# Altium integrated library Lattice CPLD ispMACH 5000B.IntLib: 54 symbols (part 2 of 6)
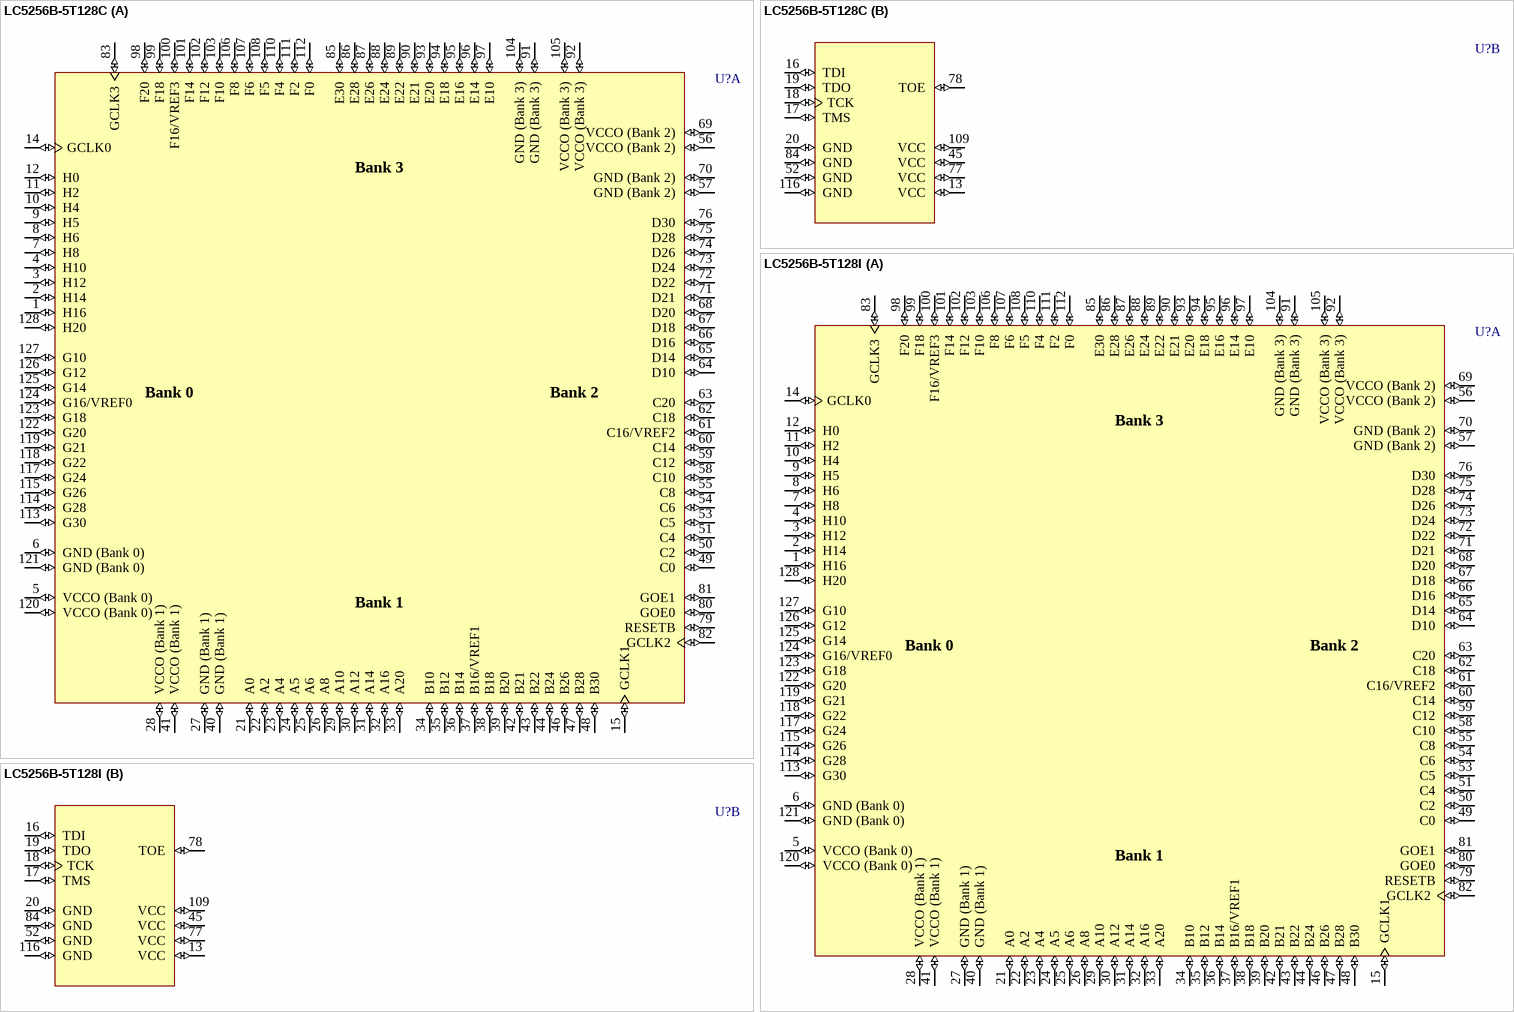
[diagram p45: symbols LC5256B-5T128C to LC5256B-5T128I]

## LC5256B-5T128I
designator U?
ispMACH 5256B SuperWIDE, High Density PLD, 2.5 V, 92 User I/Os, 128-Pin TQFP, 5.0 ns, Industrial Grade; Published: 17-Dec-2003; LatestRevisionDate: 13-Apr-2006; LatestRevisionNote: IPC-7351 Footprint Added.; DatasheetVersion: 5kb_11.1 (Sep-2003); PackageVersion: Aug-2005; PackageReference: TQFP128; Publisher: Altium Limited; PackageDescription: 128-Pin Thin Quad Flat Pack 0.4 mm Pitch; ComponentLink1Description: Manufacturer Link; ComponentLink1URL: http://www.latticesemi.com/; ComponentLink2Description: Datasheet; ComponentLink2URL: http://www.latticesemi.com/account/_download.cfm?AMID=4957; ComponentLink3Description: Lattice Login; ComponentLink3URL: http://www.latticesemi.com/account/login.cfm
footprint TQFP128_N (Thin QFP, 128-Leads, Body 14x14mm, Pitch 0.4mm, IPC Medium Density)
footprint TQFP128_L (Thin QFP, 128-Leads, Body 14x14mm, Pitch 0.4mm, IPC High Density)
footprint TQFP128_M (Thin QFP, 128-Leads, Body 14x14mm, Pitch 0.4mm, IPC Low Density)
3D model 5128B-TQFP128 (128-Pin Thin Quad Flat Pack 0.4 mm Pitch)
part A pins: 1 H16 (io), 2 H14 (io), 3 H12 (io), 4 H10 (io), 5 VCCO (Bank 0) (io), 6 GND (Bank 0) (io), 7 H8 (io), 8 H6 (io), 9 H5 (io), 10 H4 (io), 11 H2 (io), 12 H0 (io), 14 GCLK0 (io), 15 GCLK1 (io), 21 A0 (io), 22 A2 (io), 23 A4 (io), 24 A5 (io), 25 A6 (io), 26 A8 (io), 27 GND (Bank 1) (io), 28 VCCO (Bank 1) (io), 29 A10 (io), 30 A12 (io), 31 A14 (io), 32 A16 (io), 33 A20 (io), 34 B10 (io), 35 B12 (io), 36 B14 (io), 37 B16/VREF1 (io), 38 B18 (io), 39 B20 (io), 40 GND (Bank 1) (io), 41 VCCO (Bank 1) (io), 42 B21 (io), 43 B22 (io), 44 B24 (io), 46 B26 (io), 47 B28 (io), 48 B30 (io), 49 C0 (io), 50 C2 (io), 51 C4 (io), 53 C5 (io), 54 C6 (io), 55 C8 (io), 56 VCCO (Bank 2) (io), 57 GND (Bank 2) (io), 58 C10 (io), 59 C12 (io), 60 C14 (io), 61 C16/VREF2 (io), 62 C18 (io), 63 C20 (io), 64 D10 (io), 65 D14 (io), 66 D16 (io), 67 D18 (io), 68 D20 (io), 69 VCCO (Bank 2) (io), 70 GND (Bank 2) (io), 71 D21 (io), 72 D22 (io), 73 D24 (io), 74 D26 (io), 75 D28 (io), 76 D30 (io), 79 RESETB (io), 80 GOE0 (io), 81 GOE1 (io), 82 GCLK2 (io), 83 GCLK3 (io), 85 E30 (io), 86 E28 (io), 87 E26 (io), 88 E24 (io), 89 E22 (io), 90 E21 (io), 91 GND (Bank 3) (io), 92 VCCO (Bank 3) (io), 93 E20 (io), 94 E18 (io), 95 E16 (io), 96 E14 (io), 97 E10 (io), 98 F20 (io), 99 F18 (io), 100 F16/VREF3 (io), 101 F14 (io), 102 F12 (io), 103 F10 (io), 104 GND (Bank 3) (io), 105 VCCO (Bank 3) (io), 106 F8 (io), 107 F6 (io), 108 F5 (io), 110 F4 (io), 111 F2 (io), 112 F0 (io), 113 G30 (io), 114 G28 (io), 115 G26 (io), 117 G24 (io), 118 G22 (io), 119 G21 (io), 120 VCCO (Bank 0) (io), 121 GND (Bank 0) (io), 122 G20 (io), 123 G18 (io), 124 G16/VREF0 (io), 125 G14 (io), 126 G12 (io), 127 G10 (io), 128 H20 (io)
part B pins: 13 VCC (io), 16 TDI (io), 17 TMS (io), 18 TCK (io), 19 TDO (io), 20 GND (io), 45 VCC (io), 52 GND (io), 77 VCC (io), 78 TOE (io), 84 GND (io), 109 VCC (io), 116 GND (io)
part A text: Bank 3; Bank 0; Bank 2; Bank 1

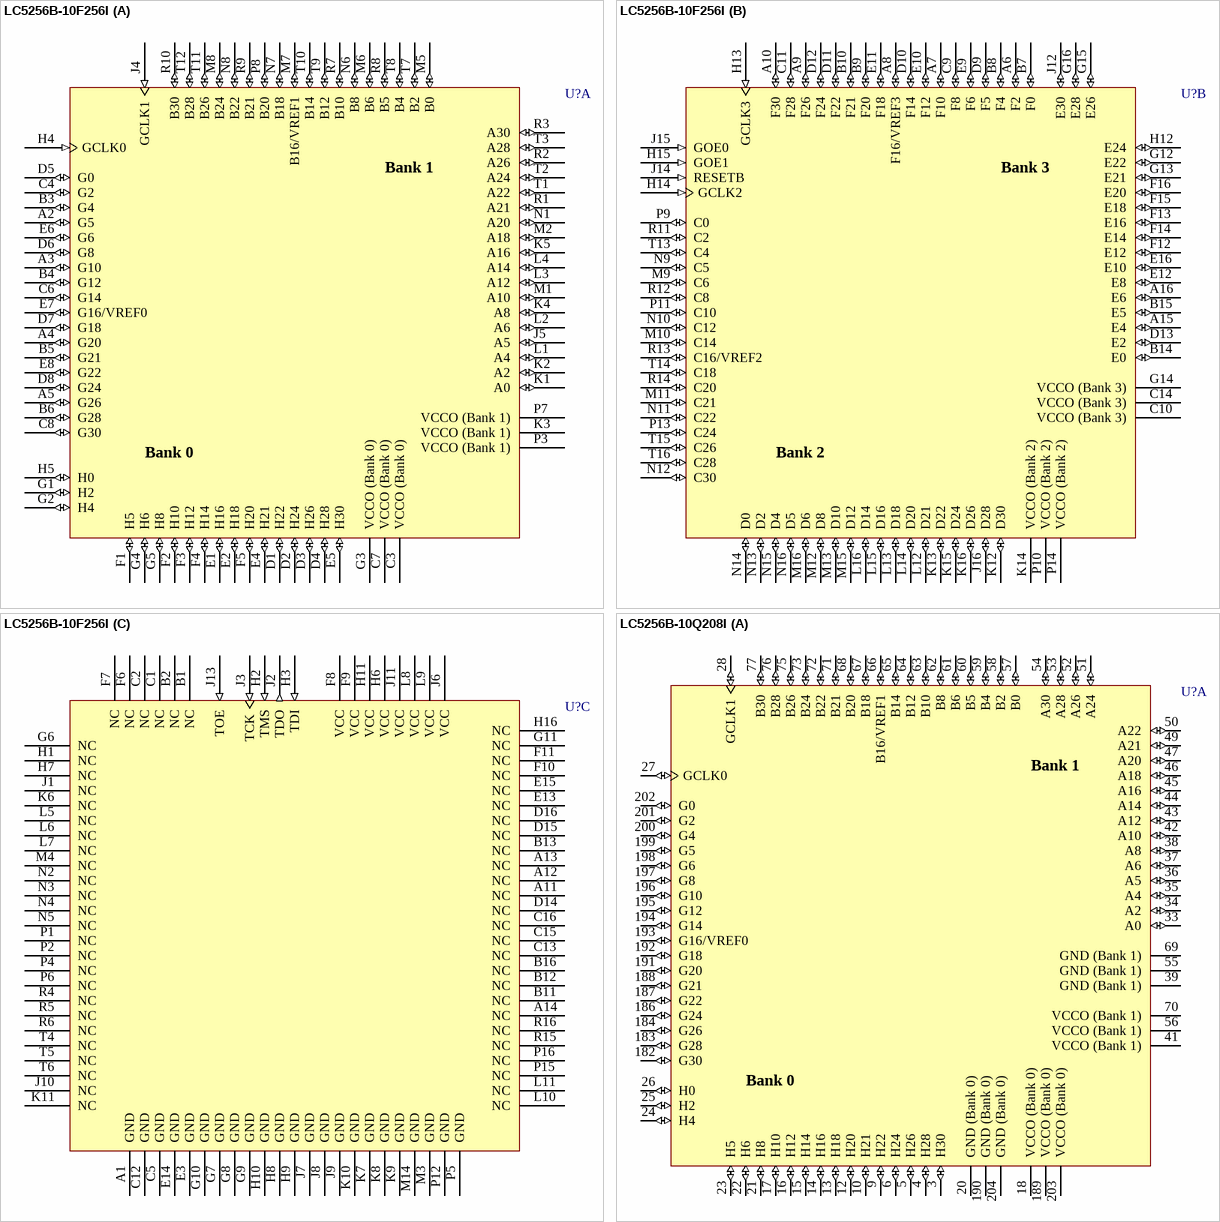
[diagram p8: symbols LC5256B-10F256I to LC5256B-10Q208I]

## LC5256B-10F256I
designator U?
ispMACH 5256B SuperWIDE, High Density PLD, 2.5 V, 144 User I/Os, 256-Ball fpBGA, 10 ns, Industrial Grade; Published: 17-Dec-2003; LatestRevisionDate: 13-Apr-2006; LatestRevisionNote: IPC-7351 Footprint Added.; DatasheetVersion: 5kb_11.1 (Sep-2003); PackageVersion: pkg_32, Aug-2005; PackageReference: fpBGA256; Publisher: Altium Limited; PackageDescription: 256-Ball Fine Pitch Ball Grid Array (fpBGA256); Code_IPC: BGA100P16X16-256; ComponentLink1Description: Manufacturer Link; ComponentLink1URL: http://www.latticesemi.com/; ComponentLink2Description: Datasheet; ComponentLink2URL: http://www.latticesemi.com/account/_download.cfm?AMID=4957; ComponentLink3Description: Lattice Login; ComponentLink3URL: http://www.latticesemi.com/account/login.cfm
footprint fpBGA256 (BGA, 256-Leads, Body 17x17mm, Pitch 1mm)
3D model 5256B-fpBGA256 (256-Ball Fine Pitch Ball Grid Array (fpBGA256))
part A pins: A2 G5 (io), A3 G10 (io), A4 G20 (io), A5 G26 (io), B3 G4 (io), B4 G12 (io), B5 G21 (io), B6 G28 (io), C3 VCCO (Bank 0) (power), C4 G2 (io), C6 G14 (io), C7 VCCO (Bank 0) (power), C8 G30 (io), D1 H22 (io), D2 H24 (io), D3 H26 (io), D4 H28 (io), D5 G0 (io), D6 G8 (io), D7 G18 (io), D8 G24 (io), E1 H16 (io), E2 H18 (io), E4 H21 (io), E5 H30 (io), E6 G6 (io), E7 G16/VREF0 (io), E8 G22 (io), F1 H5 (io), F2 H10 (io), F3 H12 (io), F4 H14 (io), F5 H20 (io), G1 H2 (io), G2 H4 (io), G3 VCCO (Bank 0) (power), G4 H6 (io), G5 H8 (io), H4 GCLK0 (in), H5 H0 (io), J4 GCLK1 (in), J5 A5 (io), K1 A0 (io), K2 A2 (io), K3 VCCO (Bank 1) (power), K4 A8 (io), K5 A16 (io), L1 A4 (io), L2 A6 (io), L3 A12 (io), L4 A14 (io), M1 A10 (io), M2 A18 (io), M5 B0 (io), M6 B6 (io), M7 B16/VREF1 (io), M8 B24 (io), N1 A20 (io), N6 B8 (io), N7 B18 (io), N8 B22 (io), P3 VCCO (Bank 1) (power), P7 VCCO (Bank 1) (power), P8 B20 (io), R1 A21 (io), R2 A26 (io), R3 A30 (io), R7 B10 (io), R8 B5 (io), R9 B21 (io), R10 B30 (io), T1 A22 (io), T2 A24 (io), T3 A28 (io), T7 B2 (io), T8 B4 (io), T9 B12 (io), T10 B14 (io), T11 B26 (io), T12 B28 (io)
part B pins: A6 F2 (io), A7 F10 (io), A8 F16/VREF3 (io), A9 F26 (io), A10 F30 (io), A15 E4 (io), A16 E6 (io), B7 F0 (io), B8 F4 (io), B9 F20 (io), B10 F21 (io), B14 E0 (io), B15 E5 (io), C9 F8 (io), C10 VCCO (Bank 3) (power), C11 F28 (io), C14 VCCO (Bank 3) (power), D9 F5 (io), D10 F14 (io), D11 F22 (io), D12 F24 (io), D13 E2 (io), E9 F6 (io), E10 F12 (io), E11 F18 (io), E12 E8 (io), E16 E10 (io), F12 E12 (io), F13 E16 (io), F14 E14 (io), F15 E18 (io), F16 E20 (io), G12 E22 (io), G13 E21 (io), G14 VCCO (Bank 3) (power), G15 E26 (io), G16 E28 (io), H12 E24 (io), H13 GCLK3 (in), H14 GCLK2 (in), H15 GOE1 (in), J12 E30 (io), J14 RESETB (in), J15 GOE0 (in), J16 D28 (io), K12 D30 (io), K13 D22 (io), K14 VCCO (Bank 2) (power), K15 D24 (io), K16 D26 (io), L12 D21 (io), L13 D18 (io), L14 D20 (io), L15 D16 (io), L16 D14 (io), M9 C6 (io), M10 C14 (io), M11 C21 (io), M12 D8 (io), M13 D10 (io), M15 D12 (io), M16 D6 (io), N9 C5 (io), N10 C12 (io), N11 C22 (io), N12 C30 (io), N13 D2 (io), N14 D0 (io), N15 D4 (io), N16 D5 (io), P9 C0 (io), P10 VCCO (Bank 2) (power), P11 C10 (io), P13 C24 (io), P14 VCCO (Bank 2) (power), R11 C2 (io), R12 C8 (io), R13 C16/VREF2 (io), R14 C20 (io), T13 C4 (io), T14 C18 (io), T15 C26 (io), T16 C28 (io)
part C pins: A1 GND (power), A11 NC, A12 NC, A13 NC, A14 NC, B1 NC, B2 NC, B11 NC, B12 NC, B13 NC, B16 NC, C1 NC, C2 NC, C5 GND (power), C12 GND (power), C13 NC, C15 NC, C16 NC, D14 NC, D15 NC, D16 NC, E3 GND (power), E13 NC, E14 GND (power), E15 NC, F6 NC, F7 NC, F8 VCC (power), F9 VCC (power), F10 NC, F11 NC, G6 NC, G7 GND (power), G8 GND (power), G9 GND (power), G10 GND (power), G11 NC, H1 NC, H2 TMS (in), H3 TDI (in), H6 VCC (power), H7 NC, H8 GND (power), H9 GND (power), H10 GND (power), H11 VCC (power), H16 NC, J1 NC, J2 TDO (out), J3 TCK (in), J6 VCC (power), J7 GND (power), J8 GND (power), J9 GND (power), J10 NC, J11 VCC (power), J13 TOE (in), K6 NC, K7 GND (power), K8 GND (power), K9 GND (power), K10 GND (power), K11 NC, L5 NC, L6 NC, L7 NC, L8 VCC (power), L9 VCC (power), L10 NC, L11 NC, M3 GND (power), M4 NC, M14 GND (power), N2 NC, N3 NC, N4 NC, N5 NC, P1 NC, P2 NC, P4 NC, P5 GND (power), P6 NC, P12 GND (power), P15 NC, P16 NC, R4 NC, R5 NC, R6 NC, R15 NC, R16 NC, T4 NC, T5 NC, T6 NC
part A text: Bank 1; Bank 0
part B text: Bank 3; Bank 2

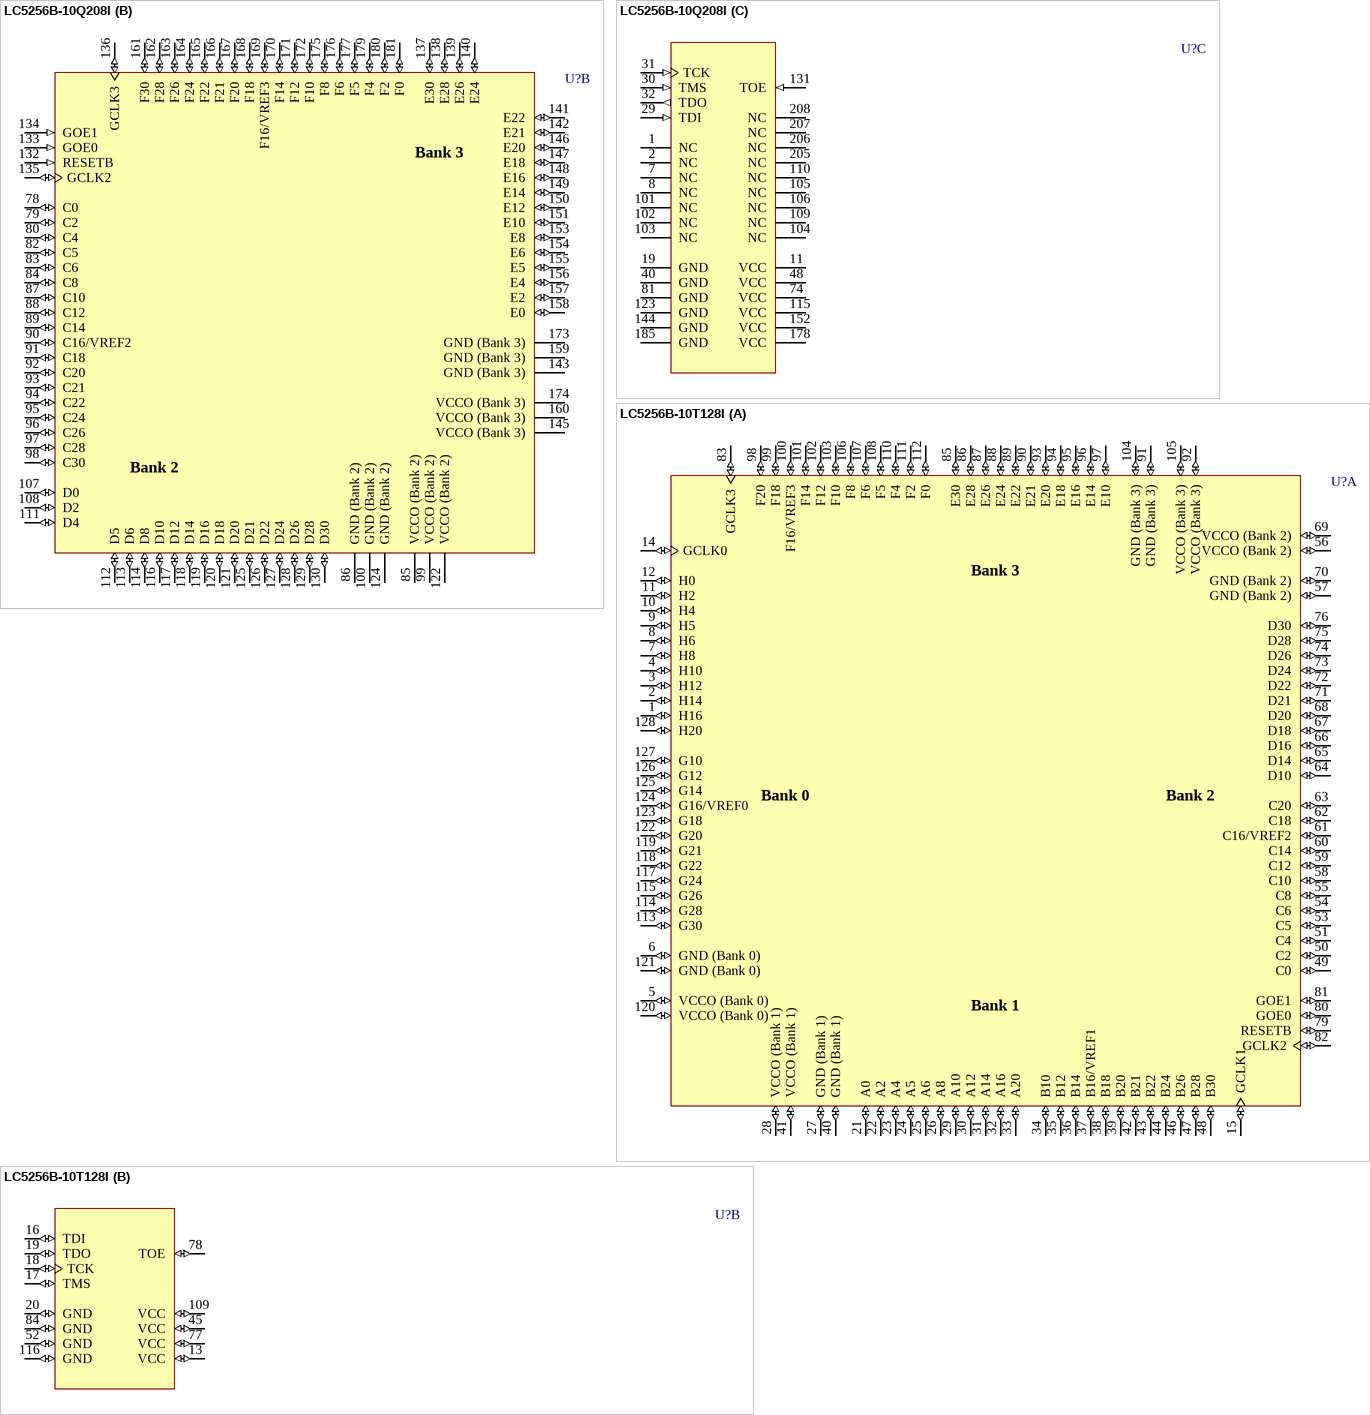
[diagram p9: symbols LC5256B-10Q208I to LC5256B-10T128I]

## LC5256B-10Q208I
designator U?
ispMACH 5256B SuperWIDE, High Density PLD,, 2.5 V, 144 User I/Os, 208-Pin PQFP, 10 ns, Industrial Grade; Published: 17-Dec-2003; LatestRevisionDate: 13-Apr-2006; LatestRevisionNote: IPC-7351 Footprint Added.; DatasheetVersion: 5kb_11.1 (Sep-2003); PackageVersion: pkg_32, Aug-2005; PackageReference: PQFP208; Publisher: Altium Limited; PackageDescription: 208-Pin Plastic Quad Flat Pack (PQFP208); Code_JEDEC: MO-143-FAI; ComponentLink1Description: Manufacturer Link; ComponentLink1URL: http://www.latticesemi.com/; ComponentLink2Description: Datasheet; ComponentLink2URL: http://www.latticesemi.com/account/_download.cfm?AMID=4957; ComponentLink3Description: Lattice Login; ComponentLink3URL: http://www.latticesemi.com/account/login.cfm
footprint PQFP208_N (Shrink QFP, 208-Leads, Body 28x28mm, Pitch 0.5mm, IPC Medium Density)
footprint PQFP208_L (Shrink QFP, 208-Leads, Body 28x28mm, Pitch 0.5mm, IPC High Density)
footprint PQFP208_M (Shrink QFP, 208-Leads, Body 28x28mm, Pitch 0.5mm, IPC Low Density)
3D model 5256B-PQFP208 (208-Pin Plastic Quad Flat Pack (PQFP208))
part A pins: 3 H30 (io), 4 H28 (io), 5 H26 (io), 6 H24 (io), 9 H22 (io), 10 H21 (io), 12 H20 (io), 13 H18 (io), 14 H16 (io), 15 H14 (io), 16 H12 (io), 17 H10 (io), 18 VCCO (Bank 0) (power), 20 GND (Bank 0) (power), 21 H8 (io), 22 H6 (io), 23 H5 (io), 24 H4 (io), 25 H2 (io), 26 H0 (io), 27 GCLK0 (io), 28 GCLK1 (io), 33 A0 (io), 34 A2 (io), 35 A4 (io), 36 A5 (io), 37 A6 (io), 38 A8 (io), 39 GND (Bank 1) (power), 41 VCCO (Bank 1) (power), 42 A10 (io), 43 A12 (io), 44 A14 (io), 45 A16 (io), 46 A18 (io), 47 A20 (io), 49 A21 (io), 50 A22 (io), 51 A24 (io), 52 A26 (io), 53 A28 (io), 54 A30 (io), 55 GND (Bank 1) (power), 56 VCCO (Bank 1) (power), 57 B0 (io), 58 B2 (io), 59 B4 (io), 60 B5 (io), 61 B6 (io), 62 B8 (io), 63 B10 (io), 64 B12 (io), 65 B14 (io), 66 B16/VREF1 (io), 67 B18 (io), 68 B20 (io), 69 GND (Bank 1) (power), 70 VCCO (Bank 1) (power), 71 B21 (io), 72 B22 (io), 73 B24 (io), 75 B26 (io), 76 B28 (io), 77 B30 (io), 182 G30 (io), 183 G28 (io), 184 G26 (io), 186 G24 (io), 187 G22 (io), 188 G21 (io), 189 VCCO (Bank 0) (power), 190 GND (Bank 0) (power), 191 G20 (io), 192 G18 (io), 193 G16/VREF0 (io), 194 G14 (io), 195 G12 (io), 196 G10 (io), 197 G8 (io), 198 G6 (io), 199 G5 (io), 200 G4 (io), 201 G2 (io), 202 G0 (io), 203 VCCO (Bank 0) (power), 204 GND (Bank 0) (power)
part B pins: 78 C0 (io), 79 C2 (io), 80 C4 (io), 82 C5 (io), 83 C6 (io), 84 C8 (io), 85 VCCO (Bank 2) (power), 86 GND (Bank 2) (power), 87 C10 (io), 88 C12 (io), 89 C14 (io), 90 C16/VREF2 (io), 91 C18 (io), 92 C20 (io), 93 C21 (io), 94 C22 (io), 95 C24 (io), 96 C26 (io), 97 C28 (io), 98 C30 (io), 99 VCCO (Bank 2) (power), 100 GND (Bank 2) (power), 107 D0 (io), 108 D2 (io), 111 D4 (io), 112 D5 (io), 113 D6 (io), 114 D8 (io), 116 D10 (io), 117 D12 (io), 118 D14 (io), 119 D16 (io), 120 D18 (io), 121 D20 (io), 122 VCCO (Bank 2) (power), 124 GND (Bank 2) (power), 125 D21 (io), 126 D22 (io), 127 D24 (io), 128 D26 (io), 129 D28 (io), 130 D30 (io), 132 RESETB (in), 133 GOE0 (in), 134 GOE1 (in), 135 GCLK2 (io), 136 GCLK3 (io), 137 E30 (io), 138 E28 (io), 139 E26 (io), 140 E24 (io), 141 E22 (io), 142 E21 (io), 143 GND (Bank 3) (power), 145 VCCO (Bank 3) (power), 146 E20 (io), 147 E18 (io), 148 E16 (io), 149 E14 (io), 150 E12 (io), 151 E10 (io), 153 E8 (io), 154 E6 (io), 155 E5 (io), 156 E4 (io), 157 E2 (io), 158 E0 (io), 159 GND (Bank 3) (power), 160 VCCO (Bank 3) (power), 161 F30 (io), 162 F28 (io), 163 F26 (io), 164 F24 (io), 165 F22 (io), 166 F21 (io), 167 F20 (io), 168 F18 (io), 169 F16/VREF3 (io), 170 F14 (io), 171 F12 (io), 172 F10 (io), 173 GND (Bank 3) (power), 174 VCCO (Bank 3) (power), 175 F8 (io), 176 F6 (io), 177 F5 (io), 179 F4 (io), 180 F2 (io), 181 F0 (io)
part C pins: 1 NC, 2 NC, 7 NC, 8 NC, 11 VCC (power), 19 GND (power), 29 TDI (in), 30 TMS (in), 31 TCK (in), 32 TDO (out), 40 GND (power), 48 VCC (power), 74 VCC (power), 81 GND (power), 101 NC, 102 NC, 103 NC, 104 NC, 105 NC, 106 NC, 109 NC, 110 NC, 115 VCC (power), 123 GND (power), 131 TOE (in), 144 GND (power), 152 VCC (power), 178 VCC (power), 185 GND (power), 205 NC, 206 NC, 207 NC, 208 NC
part A text: Bank 1; Bank 0
part B text: Bank 3; Bank 2

## LC5256B-10T128I
designator U?
ispMACH 5256B SuperWIDE, High Density PLD, 2.5 V, 92 User I/Os, 128-Pin TQFP, 10 ns, Industrial Grade; Published: 17-Dec-2003; LatestRevisionDate: 13-Apr-2006; LatestRevisionNote: IPC-7351 Footprint Added.; DatasheetVersion: 5kb_11.1 (Sep-2003); PackageVersion: Aug-2005; PackageReference: TQFP128; Publisher: Altium Limited; PackageDescription: 128-Pin Thin Quad Flat Pack 0.4 mm Pitch; ComponentLink1Description: Manufacturer Link; ComponentLink1URL: http://www.latticesemi.com/; ComponentLink2Description: Datasheet; ComponentLink2URL: http://www.latticesemi.com/account/_download.cfm?AMID=4957; ComponentLink3Description: Lattice Login; ComponentLink3URL: http://www.latticesemi.com/account/login.cfm
footprint TQFP128_N (Thin QFP, 128-Leads, Body 14x14mm, Pitch 0.4mm, IPC Medium Density)
footprint TQFP128_L (Thin QFP, 128-Leads, Body 14x14mm, Pitch 0.4mm, IPC High Density)
footprint TQFP128_M (Thin QFP, 128-Leads, Body 14x14mm, Pitch 0.4mm, IPC Low Density)
3D model 5128B-TQFP128 (128-Pin Thin Quad Flat Pack 0.4 mm Pitch)
part A pins: 1 H16 (io), 2 H14 (io), 3 H12 (io), 4 H10 (io), 5 VCCO (Bank 0) (io), 6 GND (Bank 0) (io), 7 H8 (io), 8 H6 (io), 9 H5 (io), 10 H4 (io), 11 H2 (io), 12 H0 (io), 14 GCLK0 (io), 15 GCLK1 (io), 21 A0 (io), 22 A2 (io), 23 A4 (io), 24 A5 (io), 25 A6 (io), 26 A8 (io), 27 GND (Bank 1) (io), 28 VCCO (Bank 1) (io), 29 A10 (io), 30 A12 (io), 31 A14 (io), 32 A16 (io), 33 A20 (io), 34 B10 (io), 35 B12 (io), 36 B14 (io), 37 B16/VREF1 (io), 38 B18 (io), 39 B20 (io), 40 GND (Bank 1) (io), 41 VCCO (Bank 1) (io), 42 B21 (io), 43 B22 (io), 44 B24 (io), 46 B26 (io), 47 B28 (io), 48 B30 (io), 49 C0 (io), 50 C2 (io), 51 C4 (io), 53 C5 (io), 54 C6 (io), 55 C8 (io), 56 VCCO (Bank 2) (io), 57 GND (Bank 2) (io), 58 C10 (io), 59 C12 (io), 60 C14 (io), 61 C16/VREF2 (io), 62 C18 (io), 63 C20 (io), 64 D10 (io), 65 D14 (io), 66 D16 (io), 67 D18 (io), 68 D20 (io), 69 VCCO (Bank 2) (io), 70 GND (Bank 2) (io), 71 D21 (io), 72 D22 (io), 73 D24 (io), 74 D26 (io), 75 D28 (io), 76 D30 (io), 79 RESETB (io), 80 GOE0 (io), 81 GOE1 (io), 82 GCLK2 (io), 83 GCLK3 (io), 85 E30 (io), 86 E28 (io), 87 E26 (io), 88 E24 (io), 89 E22 (io), 90 E21 (io), 91 GND (Bank 3) (io), 92 VCCO (Bank 3) (io), 93 E20 (io), 94 E18 (io), 95 E16 (io), 96 E14 (io), 97 E10 (io), 98 F20 (io), 99 F18 (io), 100 F16/VREF3 (io), 101 F14 (io), 102 F12 (io), 103 F10 (io), 104 GND (Bank 3) (io), 105 VCCO (Bank 3) (io), 106 F8 (io), 107 F6 (io), 108 F5 (io), 110 F4 (io), 111 F2 (io), 112 F0 (io), 113 G30 (io), 114 G28 (io), 115 G26 (io), 117 G24 (io), 118 G22 (io), 119 G21 (io), 120 VCCO (Bank 0) (io), 121 GND (Bank 0) (io), 122 G20 (io), 123 G18 (io), 124 G16/VREF0 (io), 125 G14 (io), 126 G12 (io), 127 G10 (io), 128 H20 (io)
part B pins: 13 VCC (io), 16 TDI (io), 17 TMS (io), 18 TCK (io), 19 TDO (io), 20 GND (io), 45 VCC (io), 52 GND (io), 77 VCC (io), 78 TOE (io), 84 GND (io), 109 VCC (io), 116 GND (io)
part A text: Bank 3; Bank 0; Bank 2; Bank 1

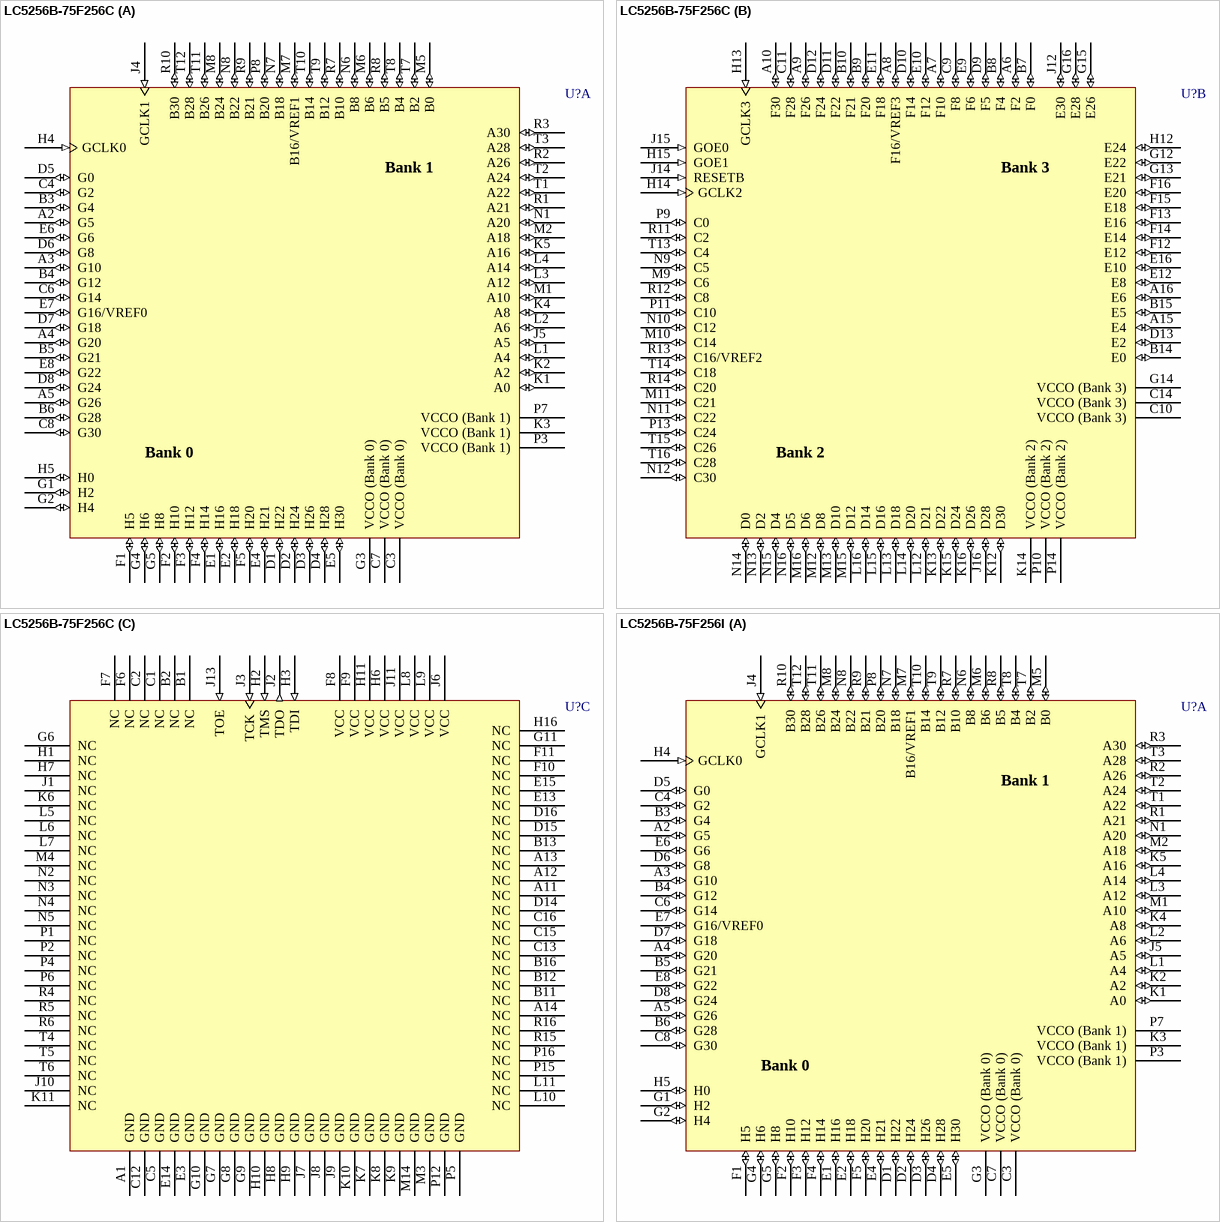
[diagram p10: symbols LC5256B-75F256C to LC5256B-75F256I]

## LC5256B-75F256C
designator U?
ispMACH 5256B SuperWIDE, High Density PLD, 2.5 V, 144 User I/Os, 256-Ball fpBGA, 7.5 ns, Commercial Grade; Published: 17-Dec-2003; LatestRevisionDate: 13-Apr-2006; LatestRevisionNote: IPC-7351 Footprint Added.; DatasheetVersion: 5kb_11.1 (Sep-2003); PackageVersion: pkg_32, Aug-2005; PackageReference: fpBGA256; Publisher: Altium Limited; PackageDescription: 256-Ball Fine Pitch Ball Grid Array (fpBGA256); Code_IPC: BGA100P16X16-256; ComponentLink1Description: Manufacturer Link; ComponentLink1URL: http://www.latticesemi.com/; ComponentLink2Description: Datasheet; ComponentLink2URL: http://www.latticesemi.com/account/_download.cfm?AMID=4957; ComponentLink3Description: Lattice Login; ComponentLink3URL: http://www.latticesemi.com/account/login.cfm
footprint fpBGA256 (BGA, 256-Leads, Body 17x17mm, Pitch 1mm)
3D model 5256B-fpBGA256 (256-Ball Fine Pitch Ball Grid Array (fpBGA256))
part A pins: A2 G5 (io), A3 G10 (io), A4 G20 (io), A5 G26 (io), B3 G4 (io), B4 G12 (io), B5 G21 (io), B6 G28 (io), C3 VCCO (Bank 0) (power), C4 G2 (io), C6 G14 (io), C7 VCCO (Bank 0) (power), C8 G30 (io), D1 H22 (io), D2 H24 (io), D3 H26 (io), D4 H28 (io), D5 G0 (io), D6 G8 (io), D7 G18 (io), D8 G24 (io), E1 H16 (io), E2 H18 (io), E4 H21 (io), E5 H30 (io), E6 G6 (io), E7 G16/VREF0 (io), E8 G22 (io), F1 H5 (io), F2 H10 (io), F3 H12 (io), F4 H14 (io), F5 H20 (io), G1 H2 (io), G2 H4 (io), G3 VCCO (Bank 0) (power), G4 H6 (io), G5 H8 (io), H4 GCLK0 (in), H5 H0 (io), J4 GCLK1 (in), J5 A5 (io), K1 A0 (io), K2 A2 (io), K3 VCCO (Bank 1) (power), K4 A8 (io), K5 A16 (io), L1 A4 (io), L2 A6 (io), L3 A12 (io), L4 A14 (io), M1 A10 (io), M2 A18 (io), M5 B0 (io), M6 B6 (io), M7 B16/VREF1 (io), M8 B24 (io), N1 A20 (io), N6 B8 (io), N7 B18 (io), N8 B22 (io), P3 VCCO (Bank 1) (power), P7 VCCO (Bank 1) (power), P8 B20 (io), R1 A21 (io), R2 A26 (io), R3 A30 (io), R7 B10 (io), R8 B5 (io), R9 B21 (io), R10 B30 (io), T1 A22 (io), T2 A24 (io), T3 A28 (io), T7 B2 (io), T8 B4 (io), T9 B12 (io), T10 B14 (io), T11 B26 (io), T12 B28 (io)
part B pins: A6 F2 (io), A7 F10 (io), A8 F16/VREF3 (io), A9 F26 (io), A10 F30 (io), A15 E4 (io), A16 E6 (io), B7 F0 (io), B8 F4 (io), B9 F20 (io), B10 F21 (io), B14 E0 (io), B15 E5 (io), C9 F8 (io), C10 VCCO (Bank 3) (power), C11 F28 (io), C14 VCCO (Bank 3) (power), D9 F5 (io), D10 F14 (io), D11 F22 (io), D12 F24 (io), D13 E2 (io), E9 F6 (io), E10 F12 (io), E11 F18 (io), E12 E8 (io), E16 E10 (io), F12 E12 (io), F13 E16 (io), F14 E14 (io), F15 E18 (io), F16 E20 (io), G12 E22 (io), G13 E21 (io), G14 VCCO (Bank 3) (power), G15 E26 (io), G16 E28 (io), H12 E24 (io), H13 GCLK3 (in), H14 GCLK2 (in), H15 GOE1 (in), J12 E30 (io), J14 RESETB (in), J15 GOE0 (in), J16 D28 (io), K12 D30 (io), K13 D22 (io), K14 VCCO (Bank 2) (power), K15 D24 (io), K16 D26 (io), L12 D21 (io), L13 D18 (io), L14 D20 (io), L15 D16 (io), L16 D14 (io), M9 C6 (io), M10 C14 (io), M11 C21 (io), M12 D8 (io), M13 D10 (io), M15 D12 (io), M16 D6 (io), N9 C5 (io), N10 C12 (io), N11 C22 (io), N12 C30 (io), N13 D2 (io), N14 D0 (io), N15 D4 (io), N16 D5 (io), P9 C0 (io), P10 VCCO (Bank 2) (power), P11 C10 (io), P13 C24 (io), P14 VCCO (Bank 2) (power), R11 C2 (io), R12 C8 (io), R13 C16/VREF2 (io), R14 C20 (io), T13 C4 (io), T14 C18 (io), T15 C26 (io), T16 C28 (io)
part C pins: A1 GND (power), A11 NC, A12 NC, A13 NC, A14 NC, B1 NC, B2 NC, B11 NC, B12 NC, B13 NC, B16 NC, C1 NC, C2 NC, C5 GND (power), C12 GND (power), C13 NC, C15 NC, C16 NC, D14 NC, D15 NC, D16 NC, E3 GND (power), E13 NC, E14 GND (power), E15 NC, F6 NC, F7 NC, F8 VCC (power), F9 VCC (power), F10 NC, F11 NC, G6 NC, G7 GND (power), G8 GND (power), G9 GND (power), G10 GND (power), G11 NC, H1 NC, H2 TMS (in), H3 TDI (in), H6 VCC (power), H7 NC, H8 GND (power), H9 GND (power), H10 GND (power), H11 VCC (power), H16 NC, J1 NC, J2 TDO (out), J3 TCK (in), J6 VCC (power), J7 GND (power), J8 GND (power), J9 GND (power), J10 NC, J11 VCC (power), J13 TOE (in), K6 NC, K7 GND (power), K8 GND (power), K9 GND (power), K10 GND (power), K11 NC, L5 NC, L6 NC, L7 NC, L8 VCC (power), L9 VCC (power), L10 NC, L11 NC, M3 GND (power), M4 NC, M14 GND (power), N2 NC, N3 NC, N4 NC, N5 NC, P1 NC, P2 NC, P4 NC, P5 GND (power), P6 NC, P12 GND (power), P15 NC, P16 NC, R4 NC, R5 NC, R6 NC, R15 NC, R16 NC, T4 NC, T5 NC, T6 NC
part A text: Bank 1; Bank 0
part B text: Bank 3; Bank 2

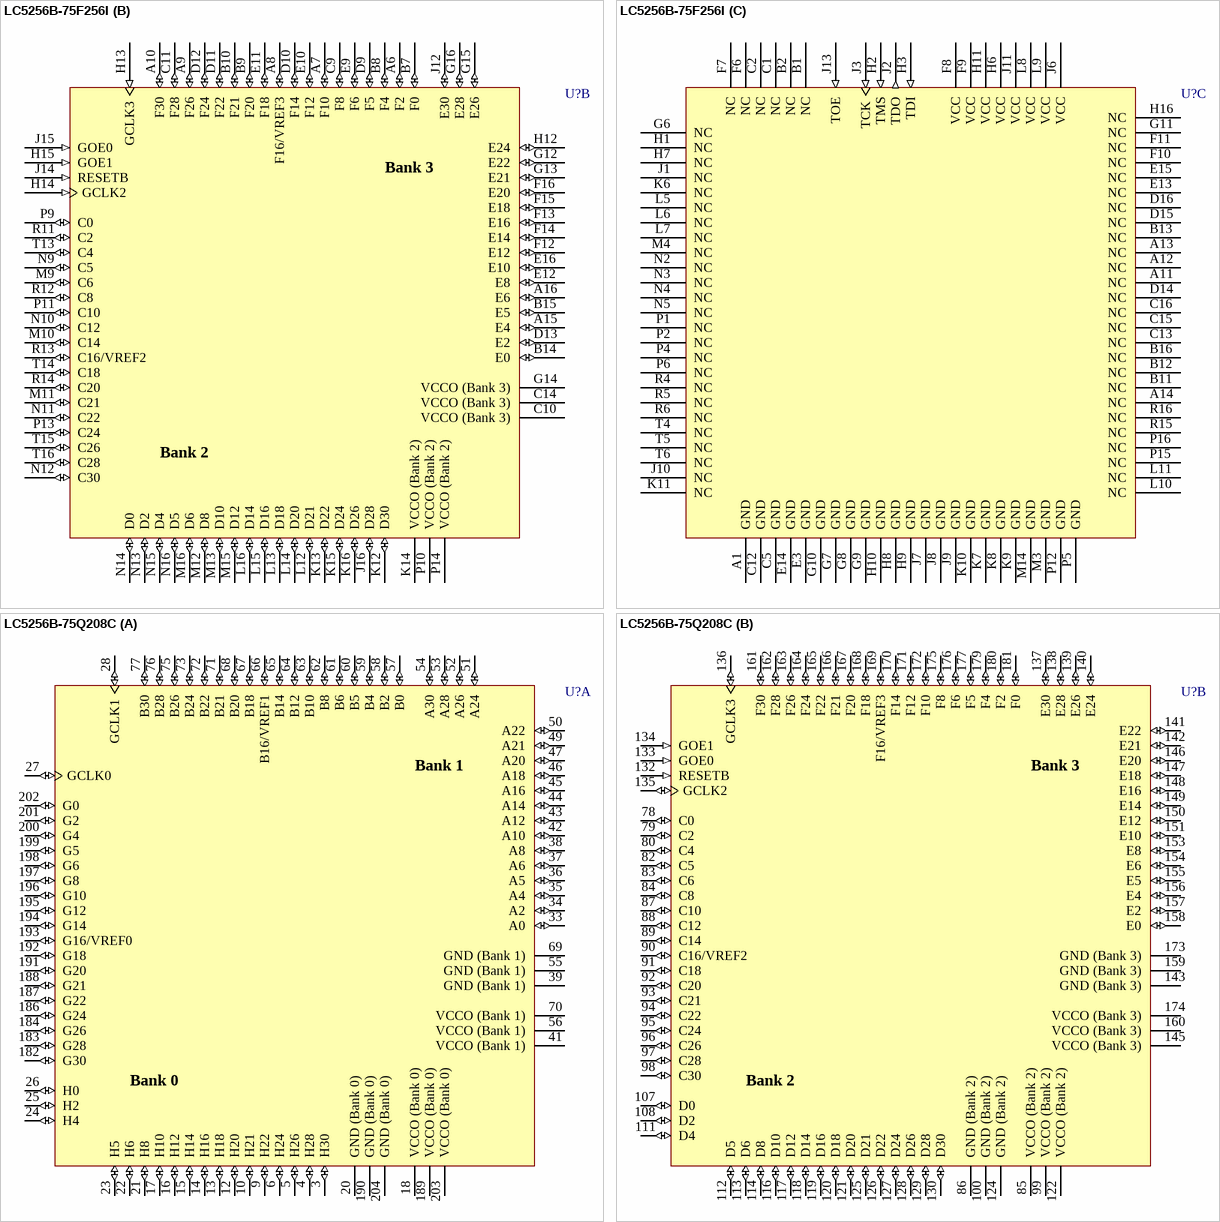
[diagram p11: symbols LC5256B-75F256I to LC5256B-75Q208C]

## LC5256B-75F256I
designator U?
ispMACH 5256B SuperWIDE, High Density PLD, 2.5 V, 144 User I/Os, 256-Ball fpBGA, 7.5 ns, Industrial Grade; Published: 17-Dec-2003; LatestRevisionDate: 13-Apr-2006; LatestRevisionNote: IPC-7351 Footprint Added.; DatasheetVersion: 5kb_11.1 (Sep-2003); PackageVersion: pkg_32, Aug-2005; PackageReference: fpBGA256; Publisher: Altium Limited; PackageDescription: 256-Ball Fine Pitch Ball Grid Array (fpBGA256); Code_IPC: BGA100P16X16-256; ComponentLink1Description: Manufacturer Link; ComponentLink1URL: http://www.latticesemi.com/; ComponentLink2Description: Datasheet; ComponentLink2URL: http://www.latticesemi.com/account/_download.cfm?AMID=4957; ComponentLink3Description: Lattice Login; ComponentLink3URL: http://www.latticesemi.com/account/login.cfm
footprint fpBGA256 (BGA, 256-Leads, Body 17x17mm, Pitch 1mm)
3D model 5256B-fpBGA256 (256-Ball Fine Pitch Ball Grid Array (fpBGA256))
part A pins: A2 G5 (io), A3 G10 (io), A4 G20 (io), A5 G26 (io), B3 G4 (io), B4 G12 (io), B5 G21 (io), B6 G28 (io), C3 VCCO (Bank 0) (power), C4 G2 (io), C6 G14 (io), C7 VCCO (Bank 0) (power), C8 G30 (io), D1 H22 (io), D2 H24 (io), D3 H26 (io), D4 H28 (io), D5 G0 (io), D6 G8 (io), D7 G18 (io), D8 G24 (io), E1 H16 (io), E2 H18 (io), E4 H21 (io), E5 H30 (io), E6 G6 (io), E7 G16/VREF0 (io), E8 G22 (io), F1 H5 (io), F2 H10 (io), F3 H12 (io), F4 H14 (io), F5 H20 (io), G1 H2 (io), G2 H4 (io), G3 VCCO (Bank 0) (power), G4 H6 (io), G5 H8 (io), H4 GCLK0 (in), H5 H0 (io), J4 GCLK1 (in), J5 A5 (io), K1 A0 (io), K2 A2 (io), K3 VCCO (Bank 1) (power), K4 A8 (io), K5 A16 (io), L1 A4 (io), L2 A6 (io), L3 A12 (io), L4 A14 (io), M1 A10 (io), M2 A18 (io), M5 B0 (io), M6 B6 (io), M7 B16/VREF1 (io), M8 B24 (io), N1 A20 (io), N6 B8 (io), N7 B18 (io), N8 B22 (io), P3 VCCO (Bank 1) (power), P7 VCCO (Bank 1) (power), P8 B20 (io), R1 A21 (io), R2 A26 (io), R3 A30 (io), R7 B10 (io), R8 B5 (io), R9 B21 (io), R10 B30 (io), T1 A22 (io), T2 A24 (io), T3 A28 (io), T7 B2 (io), T8 B4 (io), T9 B12 (io), T10 B14 (io), T11 B26 (io), T12 B28 (io)
part B pins: A6 F2 (io), A7 F10 (io), A8 F16/VREF3 (io), A9 F26 (io), A10 F30 (io), A15 E4 (io), A16 E6 (io), B7 F0 (io), B8 F4 (io), B9 F20 (io), B10 F21 (io), B14 E0 (io), B15 E5 (io), C9 F8 (io), C10 VCCO (Bank 3) (power), C11 F28 (io), C14 VCCO (Bank 3) (power), D9 F5 (io), D10 F14 (io), D11 F22 (io), D12 F24 (io), D13 E2 (io), E9 F6 (io), E10 F12 (io), E11 F18 (io), E12 E8 (io), E16 E10 (io), F12 E12 (io), F13 E16 (io), F14 E14 (io), F15 E18 (io), F16 E20 (io), G12 E22 (io), G13 E21 (io), G14 VCCO (Bank 3) (power), G15 E26 (io), G16 E28 (io), H12 E24 (io), H13 GCLK3 (in), H14 GCLK2 (in), H15 GOE1 (in), J12 E30 (io), J14 RESETB (in), J15 GOE0 (in), J16 D28 (io), K12 D30 (io), K13 D22 (io), K14 VCCO (Bank 2) (power), K15 D24 (io), K16 D26 (io), L12 D21 (io), L13 D18 (io), L14 D20 (io), L15 D16 (io), L16 D14 (io), M9 C6 (io), M10 C14 (io), M11 C21 (io), M12 D8 (io), M13 D10 (io), M15 D12 (io), M16 D6 (io), N9 C5 (io), N10 C12 (io), N11 C22 (io), N12 C30 (io), N13 D2 (io), N14 D0 (io), N15 D4 (io), N16 D5 (io), P9 C0 (io), P10 VCCO (Bank 2) (power), P11 C10 (io), P13 C24 (io), P14 VCCO (Bank 2) (power), R11 C2 (io), R12 C8 (io), R13 C16/VREF2 (io), R14 C20 (io), T13 C4 (io), T14 C18 (io), T15 C26 (io), T16 C28 (io)
part C pins: A1 GND (power), A11 NC, A12 NC, A13 NC, A14 NC, B1 NC, B2 NC, B11 NC, B12 NC, B13 NC, B16 NC, C1 NC, C2 NC, C5 GND (power), C12 GND (power), C13 NC, C15 NC, C16 NC, D14 NC, D15 NC, D16 NC, E3 GND (power), E13 NC, E14 GND (power), E15 NC, F6 NC, F7 NC, F8 VCC (power), F9 VCC (power), F10 NC, F11 NC, G6 NC, G7 GND (power), G8 GND (power), G9 GND (power), G10 GND (power), G11 NC, H1 NC, H2 TMS (in), H3 TDI (in), H6 VCC (power), H7 NC, H8 GND (power), H9 GND (power), H10 GND (power), H11 VCC (power), H16 NC, J1 NC, J2 TDO (out), J3 TCK (in), J6 VCC (power), J7 GND (power), J8 GND (power), J9 GND (power), J10 NC, J11 VCC (power), J13 TOE (in), K6 NC, K7 GND (power), K8 GND (power), K9 GND (power), K10 GND (power), K11 NC, L5 NC, L6 NC, L7 NC, L8 VCC (power), L9 VCC (power), L10 NC, L11 NC, M3 GND (power), M4 NC, M14 GND (power), N2 NC, N3 NC, N4 NC, N5 NC, P1 NC, P2 NC, P4 NC, P5 GND (power), P6 NC, P12 GND (power), P15 NC, P16 NC, R4 NC, R5 NC, R6 NC, R15 NC, R16 NC, T4 NC, T5 NC, T6 NC
part A text: Bank 1; Bank 0
part B text: Bank 3; Bank 2

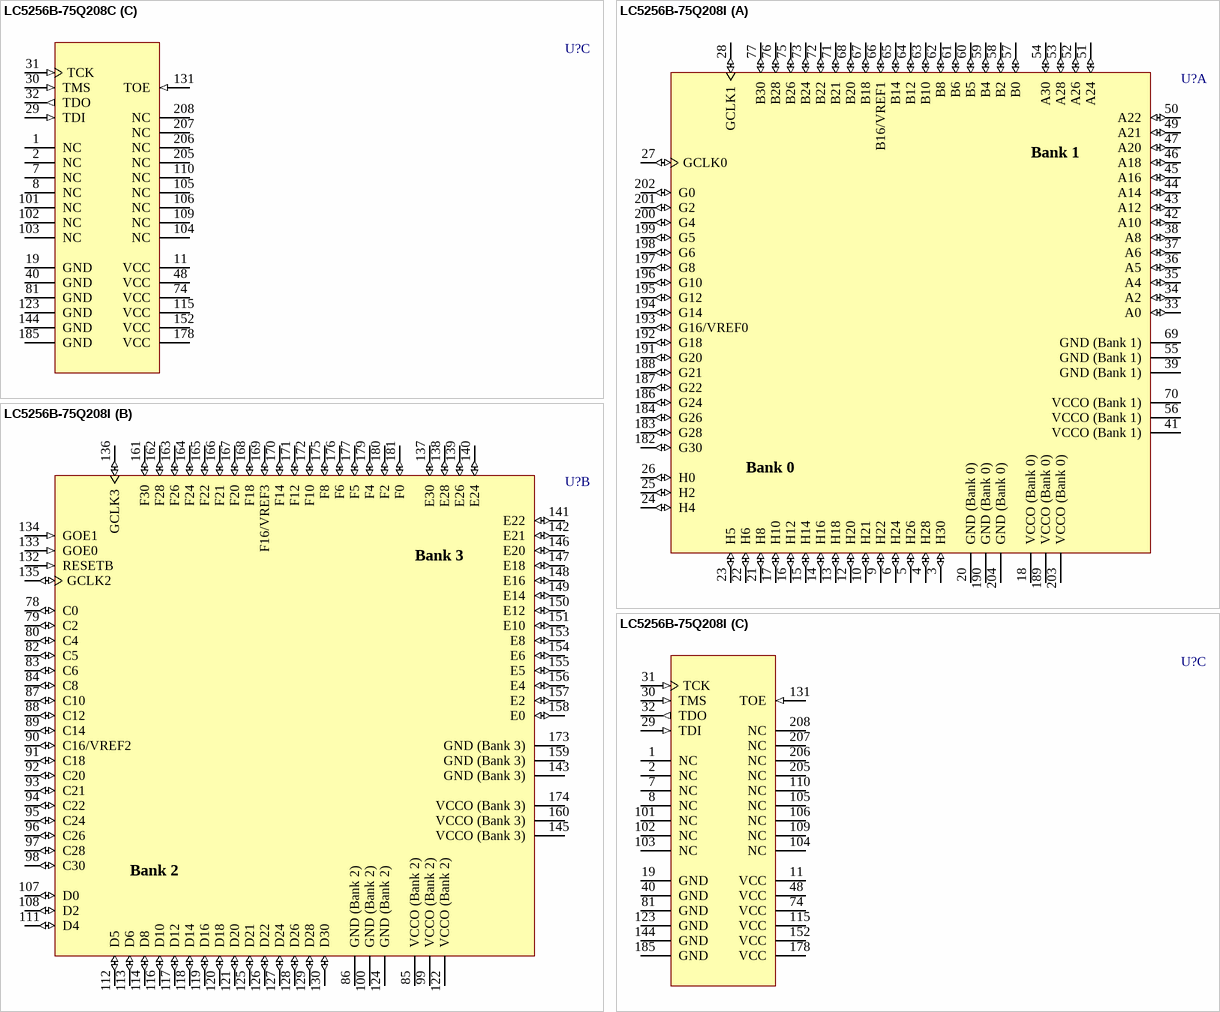
[diagram p12: symbols LC5256B-75Q208C to LC5256B-75Q208I]

## LC5256B-75Q208C
designator U?
ispMACH 5256B SuperWIDE, High Density PLD, 2.5 V, 144 User I/Os, 208-Pin PQFP, 7.5 ns, Commercial Grade; Published: 17-Dec-2003; LatestRevisionDate: 13-Apr-2006; LatestRevisionNote: IPC-7351 Footprint Added.; DatasheetVersion: 5kb_11.1 (Sep-2003); PackageVersion: pkg_32, Aug-2005; PackageReference: PQFP208; Publisher: Altium Limited; PackageDescription: 208-Pin Plastic Quad Flat Pack (PQFP208); Code_JEDEC: MO-143-FAI; ComponentLink1Description: Manufacturer Link; ComponentLink1URL: http://www.latticesemi.com/; ComponentLink2Description: Datasheet; ComponentLink2URL: http://www.latticesemi.com/account/_download.cfm?AMID=4957; ComponentLink3Description: Lattice Login; ComponentLink3URL: http://www.latticesemi.com/account/login.cfm
footprint PQFP208_N (Shrink QFP, 208-Leads, Body 28x28mm, Pitch 0.5mm, IPC Medium Density)
footprint PQFP208_L (Shrink QFP, 208-Leads, Body 28x28mm, Pitch 0.5mm, IPC High Density)
footprint PQFP208_M (Shrink QFP, 208-Leads, Body 28x28mm, Pitch 0.5mm, IPC Low Density)
3D model 5256B-PQFP208 (208-Pin Plastic Quad Flat Pack (PQFP208))
part A pins: 3 H30 (io), 4 H28 (io), 5 H26 (io), 6 H24 (io), 9 H22 (io), 10 H21 (io), 12 H20 (io), 13 H18 (io), 14 H16 (io), 15 H14 (io), 16 H12 (io), 17 H10 (io), 18 VCCO (Bank 0) (power), 20 GND (Bank 0) (power), 21 H8 (io), 22 H6 (io), 23 H5 (io), 24 H4 (io), 25 H2 (io), 26 H0 (io), 27 GCLK0 (io), 28 GCLK1 (io), 33 A0 (io), 34 A2 (io), 35 A4 (io), 36 A5 (io), 37 A6 (io), 38 A8 (io), 39 GND (Bank 1) (power), 41 VCCO (Bank 1) (power), 42 A10 (io), 43 A12 (io), 44 A14 (io), 45 A16 (io), 46 A18 (io), 47 A20 (io), 49 A21 (io), 50 A22 (io), 51 A24 (io), 52 A26 (io), 53 A28 (io), 54 A30 (io), 55 GND (Bank 1) (power), 56 VCCO (Bank 1) (power), 57 B0 (io), 58 B2 (io), 59 B4 (io), 60 B5 (io), 61 B6 (io), 62 B8 (io), 63 B10 (io), 64 B12 (io), 65 B14 (io), 66 B16/VREF1 (io), 67 B18 (io), 68 B20 (io), 69 GND (Bank 1) (power), 70 VCCO (Bank 1) (power), 71 B21 (io), 72 B22 (io), 73 B24 (io), 75 B26 (io), 76 B28 (io), 77 B30 (io), 182 G30 (io), 183 G28 (io), 184 G26 (io), 186 G24 (io), 187 G22 (io), 188 G21 (io), 189 VCCO (Bank 0) (power), 190 GND (Bank 0) (power), 191 G20 (io), 192 G18 (io), 193 G16/VREF0 (io), 194 G14 (io), 195 G12 (io), 196 G10 (io), 197 G8 (io), 198 G6 (io), 199 G5 (io), 200 G4 (io), 201 G2 (io), 202 G0 (io), 203 VCCO (Bank 0) (power), 204 GND (Bank 0) (power)
part B pins: 78 C0 (io), 79 C2 (io), 80 C4 (io), 82 C5 (io), 83 C6 (io), 84 C8 (io), 85 VCCO (Bank 2) (power), 86 GND (Bank 2) (power), 87 C10 (io), 88 C12 (io), 89 C14 (io), 90 C16/VREF2 (io), 91 C18 (io), 92 C20 (io), 93 C21 (io), 94 C22 (io), 95 C24 (io), 96 C26 (io), 97 C28 (io), 98 C30 (io), 99 VCCO (Bank 2) (power), 100 GND (Bank 2) (power), 107 D0 (io), 108 D2 (io), 111 D4 (io), 112 D5 (io), 113 D6 (io), 114 D8 (io), 116 D10 (io), 117 D12 (io), 118 D14 (io), 119 D16 (io), 120 D18 (io), 121 D20 (io), 122 VCCO (Bank 2) (power), 124 GND (Bank 2) (power), 125 D21 (io), 126 D22 (io), 127 D24 (io), 128 D26 (io), 129 D28 (io), 130 D30 (io), 132 RESETB (in), 133 GOE0 (in), 134 GOE1 (in), 135 GCLK2 (io), 136 GCLK3 (io), 137 E30 (io), 138 E28 (io), 139 E26 (io), 140 E24 (io), 141 E22 (io), 142 E21 (io), 143 GND (Bank 3) (power), 145 VCCO (Bank 3) (power), 146 E20 (io), 147 E18 (io), 148 E16 (io), 149 E14 (io), 150 E12 (io), 151 E10 (io), 153 E8 (io), 154 E6 (io), 155 E5 (io), 156 E4 (io), 157 E2 (io), 158 E0 (io), 159 GND (Bank 3) (power), 160 VCCO (Bank 3) (power), 161 F30 (io), 162 F28 (io), 163 F26 (io), 164 F24 (io), 165 F22 (io), 166 F21 (io), 167 F20 (io), 168 F18 (io), 169 F16/VREF3 (io), 170 F14 (io), 171 F12 (io), 172 F10 (io), 173 GND (Bank 3) (power), 174 VCCO (Bank 3) (power), 175 F8 (io), 176 F6 (io), 177 F5 (io), 179 F4 (io), 180 F2 (io), 181 F0 (io)
part C pins: 1 NC, 2 NC, 7 NC, 8 NC, 11 VCC (power), 19 GND (power), 29 TDI (in), 30 TMS (in), 31 TCK (in), 32 TDO (out), 40 GND (power), 48 VCC (power), 74 VCC (power), 81 GND (power), 101 NC, 102 NC, 103 NC, 104 NC, 105 NC, 106 NC, 109 NC, 110 NC, 115 VCC (power), 123 GND (power), 131 TOE (in), 144 GND (power), 152 VCC (power), 178 VCC (power), 185 GND (power), 205 NC, 206 NC, 207 NC, 208 NC
part A text: Bank 1; Bank 0
part B text: Bank 3; Bank 2

## LC5256B-75Q208I
designator U?
ispMACH 5256B SuperWIDE, High Density PLD, 2.5 V, 144 User I/Os, 208-Pin PQFP, 7.5 ns, Industrial Grade; Published: 17-Dec-2003; LatestRevisionDate: 13-Apr-2006; LatestRevisionNote: IPC-7351 Footprint Added.; DatasheetVersion: 5kb_11.1 (Sep-2003); PackageVersion: pkg_32, Aug-2005; PackageReference: PQFP208; Publisher: Altium Limited; PackageDescription: 208-Pin Plastic Quad Flat Pack (PQFP208); Code_JEDEC: MO-143-FAI; ComponentLink1Description: Manufacturer Link; ComponentLink1URL: http://www.latticesemi.com/; ComponentLink2Description: Datasheet; ComponentLink2URL: http://www.latticesemi.com/account/_download.cfm?AMID=4957; ComponentLink3Description: Lattice Login; ComponentLink3URL: http://www.latticesemi.com/account/login.cfm
footprint PQFP208_N (Shrink QFP, 208-Leads, Body 28x28mm, Pitch 0.5mm, IPC Medium Density)
footprint PQFP208_L (Shrink QFP, 208-Leads, Body 28x28mm, Pitch 0.5mm, IPC High Density)
footprint PQFP208_M (Shrink QFP, 208-Leads, Body 28x28mm, Pitch 0.5mm, IPC Low Density)
3D model 5256B-PQFP208 (208-Pin Plastic Quad Flat Pack (PQFP208))
part A pins: 3 H30 (io), 4 H28 (io), 5 H26 (io), 6 H24 (io), 9 H22 (io), 10 H21 (io), 12 H20 (io), 13 H18 (io), 14 H16 (io), 15 H14 (io), 16 H12 (io), 17 H10 (io), 18 VCCO (Bank 0) (power), 20 GND (Bank 0) (power), 21 H8 (io), 22 H6 (io), 23 H5 (io), 24 H4 (io), 25 H2 (io), 26 H0 (io), 27 GCLK0 (io), 28 GCLK1 (io), 33 A0 (io), 34 A2 (io), 35 A4 (io), 36 A5 (io), 37 A6 (io), 38 A8 (io), 39 GND (Bank 1) (power), 41 VCCO (Bank 1) (power), 42 A10 (io), 43 A12 (io), 44 A14 (io), 45 A16 (io), 46 A18 (io), 47 A20 (io), 49 A21 (io), 50 A22 (io), 51 A24 (io), 52 A26 (io), 53 A28 (io), 54 A30 (io), 55 GND (Bank 1) (power), 56 VCCO (Bank 1) (power), 57 B0 (io), 58 B2 (io), 59 B4 (io), 60 B5 (io), 61 B6 (io), 62 B8 (io), 63 B10 (io), 64 B12 (io), 65 B14 (io), 66 B16/VREF1 (io), 67 B18 (io), 68 B20 (io), 69 GND (Bank 1) (power), 70 VCCO (Bank 1) (power), 71 B21 (io), 72 B22 (io), 73 B24 (io), 75 B26 (io), 76 B28 (io), 77 B30 (io), 182 G30 (io), 183 G28 (io), 184 G26 (io), 186 G24 (io), 187 G22 (io), 188 G21 (io), 189 VCCO (Bank 0) (power), 190 GND (Bank 0) (power), 191 G20 (io), 192 G18 (io), 193 G16/VREF0 (io), 194 G14 (io), 195 G12 (io), 196 G10 (io), 197 G8 (io), 198 G6 (io), 199 G5 (io), 200 G4 (io), 201 G2 (io), 202 G0 (io), 203 VCCO (Bank 0) (power), 204 GND (Bank 0) (power)
part B pins: 78 C0 (io), 79 C2 (io), 80 C4 (io), 82 C5 (io), 83 C6 (io), 84 C8 (io), 85 VCCO (Bank 2) (power), 86 GND (Bank 2) (power), 87 C10 (io), 88 C12 (io), 89 C14 (io), 90 C16/VREF2 (io), 91 C18 (io), 92 C20 (io), 93 C21 (io), 94 C22 (io), 95 C24 (io), 96 C26 (io), 97 C28 (io), 98 C30 (io), 99 VCCO (Bank 2) (power), 100 GND (Bank 2) (power), 107 D0 (io), 108 D2 (io), 111 D4 (io), 112 D5 (io), 113 D6 (io), 114 D8 (io), 116 D10 (io), 117 D12 (io), 118 D14 (io), 119 D16 (io), 120 D18 (io), 121 D20 (io), 122 VCCO (Bank 2) (power), 124 GND (Bank 2) (power), 125 D21 (io), 126 D22 (io), 127 D24 (io), 128 D26 (io), 129 D28 (io), 130 D30 (io), 132 RESETB (in), 133 GOE0 (in), 134 GOE1 (in), 135 GCLK2 (io), 136 GCLK3 (io), 137 E30 (io), 138 E28 (io), 139 E26 (io), 140 E24 (io), 141 E22 (io), 142 E21 (io), 143 GND (Bank 3) (power), 145 VCCO (Bank 3) (power), 146 E20 (io), 147 E18 (io), 148 E16 (io), 149 E14 (io), 150 E12 (io), 151 E10 (io), 153 E8 (io), 154 E6 (io), 155 E5 (io), 156 E4 (io), 157 E2 (io), 158 E0 (io), 159 GND (Bank 3) (power), 160 VCCO (Bank 3) (power), 161 F30 (io), 162 F28 (io), 163 F26 (io), 164 F24 (io), 165 F22 (io), 166 F21 (io), 167 F20 (io), 168 F18 (io), 169 F16/VREF3 (io), 170 F14 (io), 171 F12 (io), 172 F10 (io), 173 GND (Bank 3) (power), 174 VCCO (Bank 3) (power), 175 F8 (io), 176 F6 (io), 177 F5 (io), 179 F4 (io), 180 F2 (io), 181 F0 (io)
part C pins: 1 NC, 2 NC, 7 NC, 8 NC, 11 VCC (power), 19 GND (power), 29 TDI (in), 30 TMS (in), 31 TCK (in), 32 TDO (out), 40 GND (power), 48 VCC (power), 74 VCC (power), 81 GND (power), 101 NC, 102 NC, 103 NC, 104 NC, 105 NC, 106 NC, 109 NC, 110 NC, 115 VCC (power), 123 GND (power), 131 TOE (in), 144 GND (power), 152 VCC (power), 178 VCC (power), 185 GND (power), 205 NC, 206 NC, 207 NC, 208 NC
part A text: Bank 1; Bank 0
part B text: Bank 3; Bank 2

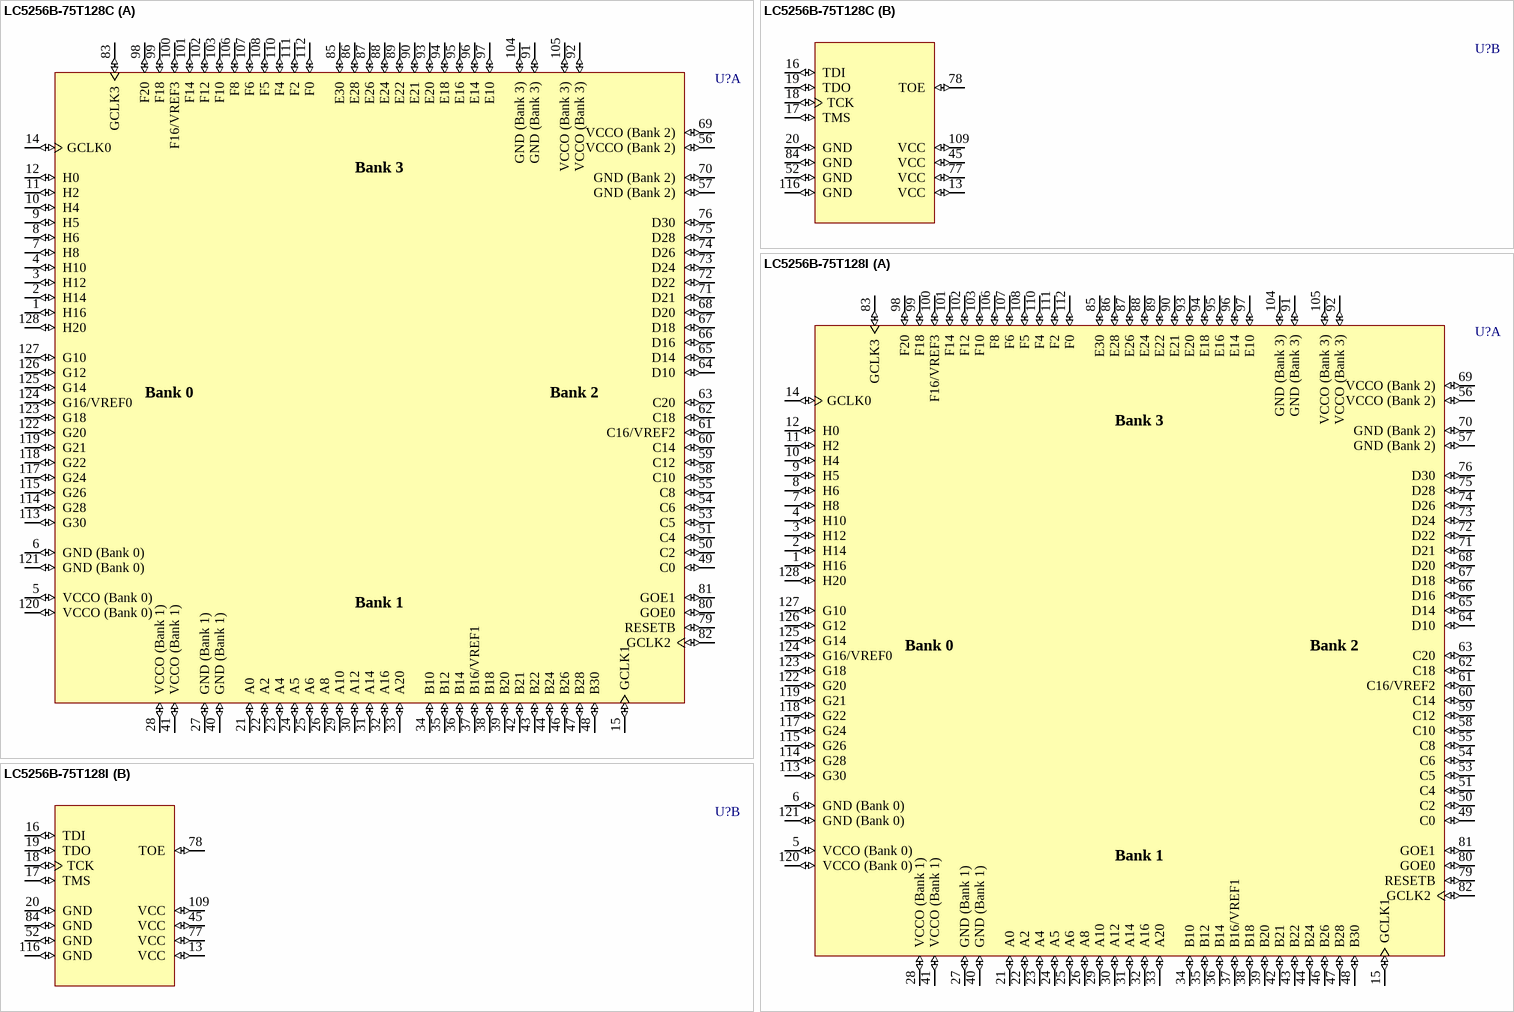
[diagram p13: symbols LC5256B-75T128C to LC5256B-75T128I]

## LC5256B-75T128C
designator U?
ispMACH 5256B SuperWIDE, High Density PLD, 2.5 V, 92 User I/Os, 128-Pin TQFP, 7.5 ns, Commercial Grade; Published: 17-Dec-2003; LatestRevisionDate: 13-Apr-2006; LatestRevisionNote: IPC-7351 Footprint Added.; DatasheetVersion: 5kb_11.1 (Sep-2003); PackageVersion: Aug-2005; PackageReference: TQFP128; Publisher: Altium Limited; PackageDescription: 128-Pin Thin Quad Flat Pack 0.4 mm Pitch; ComponentLink1Description: Manufacturer Link; ComponentLink1URL: http://www.latticesemi.com/; ComponentLink2Description: Datasheet; ComponentLink2URL: http://www.latticesemi.com/account/_download.cfm?AMID=4957; ComponentLink3Description: Lattice Login; ComponentLink3URL: http://www.latticesemi.com/account/login.cfm
footprint TQFP128_N (Thin QFP, 128-Leads, Body 14x14mm, Pitch 0.4mm, IPC Medium Density)
footprint TQFP128_L (Thin QFP, 128-Leads, Body 14x14mm, Pitch 0.4mm, IPC High Density)
footprint TQFP128_M (Thin QFP, 128-Leads, Body 14x14mm, Pitch 0.4mm, IPC Low Density)
3D model 5128B-TQFP128 (128-Pin Thin Quad Flat Pack 0.4 mm Pitch)
part A pins: 1 H16 (io), 2 H14 (io), 3 H12 (io), 4 H10 (io), 5 VCCO (Bank 0) (io), 6 GND (Bank 0) (io), 7 H8 (io), 8 H6 (io), 9 H5 (io), 10 H4 (io), 11 H2 (io), 12 H0 (io), 14 GCLK0 (io), 15 GCLK1 (io), 21 A0 (io), 22 A2 (io), 23 A4 (io), 24 A5 (io), 25 A6 (io), 26 A8 (io), 27 GND (Bank 1) (io), 28 VCCO (Bank 1) (io), 29 A10 (io), 30 A12 (io), 31 A14 (io), 32 A16 (io), 33 A20 (io), 34 B10 (io), 35 B12 (io), 36 B14 (io), 37 B16/VREF1 (io), 38 B18 (io), 39 B20 (io), 40 GND (Bank 1) (io), 41 VCCO (Bank 1) (io), 42 B21 (io), 43 B22 (io), 44 B24 (io), 46 B26 (io), 47 B28 (io), 48 B30 (io), 49 C0 (io), 50 C2 (io), 51 C4 (io), 53 C5 (io), 54 C6 (io), 55 C8 (io), 56 VCCO (Bank 2) (io), 57 GND (Bank 2) (io), 58 C10 (io), 59 C12 (io), 60 C14 (io), 61 C16/VREF2 (io), 62 C18 (io), 63 C20 (io), 64 D10 (io), 65 D14 (io), 66 D16 (io), 67 D18 (io), 68 D20 (io), 69 VCCO (Bank 2) (io), 70 GND (Bank 2) (io), 71 D21 (io), 72 D22 (io), 73 D24 (io), 74 D26 (io), 75 D28 (io), 76 D30 (io), 79 RESETB (io), 80 GOE0 (io), 81 GOE1 (io), 82 GCLK2 (io), 83 GCLK3 (io), 85 E30 (io), 86 E28 (io), 87 E26 (io), 88 E24 (io), 89 E22 (io), 90 E21 (io), 91 GND (Bank 3) (io), 92 VCCO (Bank 3) (io), 93 E20 (io), 94 E18 (io), 95 E16 (io), 96 E14 (io), 97 E10 (io), 98 F20 (io), 99 F18 (io), 100 F16/VREF3 (io), 101 F14 (io), 102 F12 (io), 103 F10 (io), 104 GND (Bank 3) (io), 105 VCCO (Bank 3) (io), 106 F8 (io), 107 F6 (io), 108 F5 (io), 110 F4 (io), 111 F2 (io), 112 F0 (io), 113 G30 (io), 114 G28 (io), 115 G26 (io), 117 G24 (io), 118 G22 (io), 119 G21 (io), 120 VCCO (Bank 0) (io), 121 GND (Bank 0) (io), 122 G20 (io), 123 G18 (io), 124 G16/VREF0 (io), 125 G14 (io), 126 G12 (io), 127 G10 (io), 128 H20 (io)
part B pins: 13 VCC (io), 16 TDI (io), 17 TMS (io), 18 TCK (io), 19 TDO (io), 20 GND (io), 45 VCC (io), 52 GND (io), 77 VCC (io), 78 TOE (io), 84 GND (io), 109 VCC (io), 116 GND (io)
part A text: Bank 3; Bank 0; Bank 2; Bank 1

## LC5256B-75T128I
designator U?
ispMACH 5256B SuperWIDE, High Density PLD, 2.5 V, 92 User I/Os, 128-Pin TQFP, 7.5 ns, Industrial Grade; Published: 17-Dec-2003; LatestRevisionDate: 13-Apr-2006; LatestRevisionNote: IPC-7351 Footprint Added.; DatasheetVersion: 5kb_11.1 (Sep-2003); PackageVersion: Aug-2005; PackageReference: TQFP128; Publisher: Altium Limited; PackageDescription: 128-Pin Thin Quad Flat Pack 0.4 mm Pitch; ComponentLink1Description: Manufacturer Link; ComponentLink1URL: http://www.latticesemi.com/; ComponentLink2Description: Datasheet; ComponentLink2URL: http://www.latticesemi.com/account/_download.cfm?AMID=4957; ComponentLink3Description: Lattice Login; ComponentLink3URL: http://www.latticesemi.com/account/login.cfm
footprint TQFP128_N (Thin QFP, 128-Leads, Body 14x14mm, Pitch 0.4mm, IPC Medium Density)
footprint TQFP128_L (Thin QFP, 128-Leads, Body 14x14mm, Pitch 0.4mm, IPC High Density)
footprint TQFP128_M (Thin QFP, 128-Leads, Body 14x14mm, Pitch 0.4mm, IPC Low Density)
3D model 5128B-TQFP128 (128-Pin Thin Quad Flat Pack 0.4 mm Pitch)
part A pins: 1 H16 (io), 2 H14 (io), 3 H12 (io), 4 H10 (io), 5 VCCO (Bank 0) (io), 6 GND (Bank 0) (io), 7 H8 (io), 8 H6 (io), 9 H5 (io), 10 H4 (io), 11 H2 (io), 12 H0 (io), 14 GCLK0 (io), 15 GCLK1 (io), 21 A0 (io), 22 A2 (io), 23 A4 (io), 24 A5 (io), 25 A6 (io), 26 A8 (io), 27 GND (Bank 1) (io), 28 VCCO (Bank 1) (io), 29 A10 (io), 30 A12 (io), 31 A14 (io), 32 A16 (io), 33 A20 (io), 34 B10 (io), 35 B12 (io), 36 B14 (io), 37 B16/VREF1 (io), 38 B18 (io), 39 B20 (io), 40 GND (Bank 1) (io), 41 VCCO (Bank 1) (io), 42 B21 (io), 43 B22 (io), 44 B24 (io), 46 B26 (io), 47 B28 (io), 48 B30 (io), 49 C0 (io), 50 C2 (io), 51 C4 (io), 53 C5 (io), 54 C6 (io), 55 C8 (io), 56 VCCO (Bank 2) (io), 57 GND (Bank 2) (io), 58 C10 (io), 59 C12 (io), 60 C14 (io), 61 C16/VREF2 (io), 62 C18 (io), 63 C20 (io), 64 D10 (io), 65 D14 (io), 66 D16 (io), 67 D18 (io), 68 D20 (io), 69 VCCO (Bank 2) (io), 70 GND (Bank 2) (io), 71 D21 (io), 72 D22 (io), 73 D24 (io), 74 D26 (io), 75 D28 (io), 76 D30 (io), 79 RESETB (io), 80 GOE0 (io), 81 GOE1 (io), 82 GCLK2 (io), 83 GCLK3 (io), 85 E30 (io), 86 E28 (io), 87 E26 (io), 88 E24 (io), 89 E22 (io), 90 E21 (io), 91 GND (Bank 3) (io), 92 VCCO (Bank 3) (io), 93 E20 (io), 94 E18 (io), 95 E16 (io), 96 E14 (io), 97 E10 (io), 98 F20 (io), 99 F18 (io), 100 F16/VREF3 (io), 101 F14 (io), 102 F12 (io), 103 F10 (io), 104 GND (Bank 3) (io), 105 VCCO (Bank 3) (io), 106 F8 (io), 107 F6 (io), 108 F5 (io), 110 F4 (io), 111 F2 (io), 112 F0 (io), 113 G30 (io), 114 G28 (io), 115 G26 (io), 117 G24 (io), 118 G22 (io), 119 G21 (io), 120 VCCO (Bank 0) (io), 121 GND (Bank 0) (io), 122 G20 (io), 123 G18 (io), 124 G16/VREF0 (io), 125 G14 (io), 126 G12 (io), 127 G10 (io), 128 H20 (io)
part B pins: 13 VCC (io), 16 TDI (io), 17 TMS (io), 18 TCK (io), 19 TDO (io), 20 GND (io), 45 VCC (io), 52 GND (io), 77 VCC (io), 78 TOE (io), 84 GND (io), 109 VCC (io), 116 GND (io)
part A text: Bank 3; Bank 0; Bank 2; Bank 1

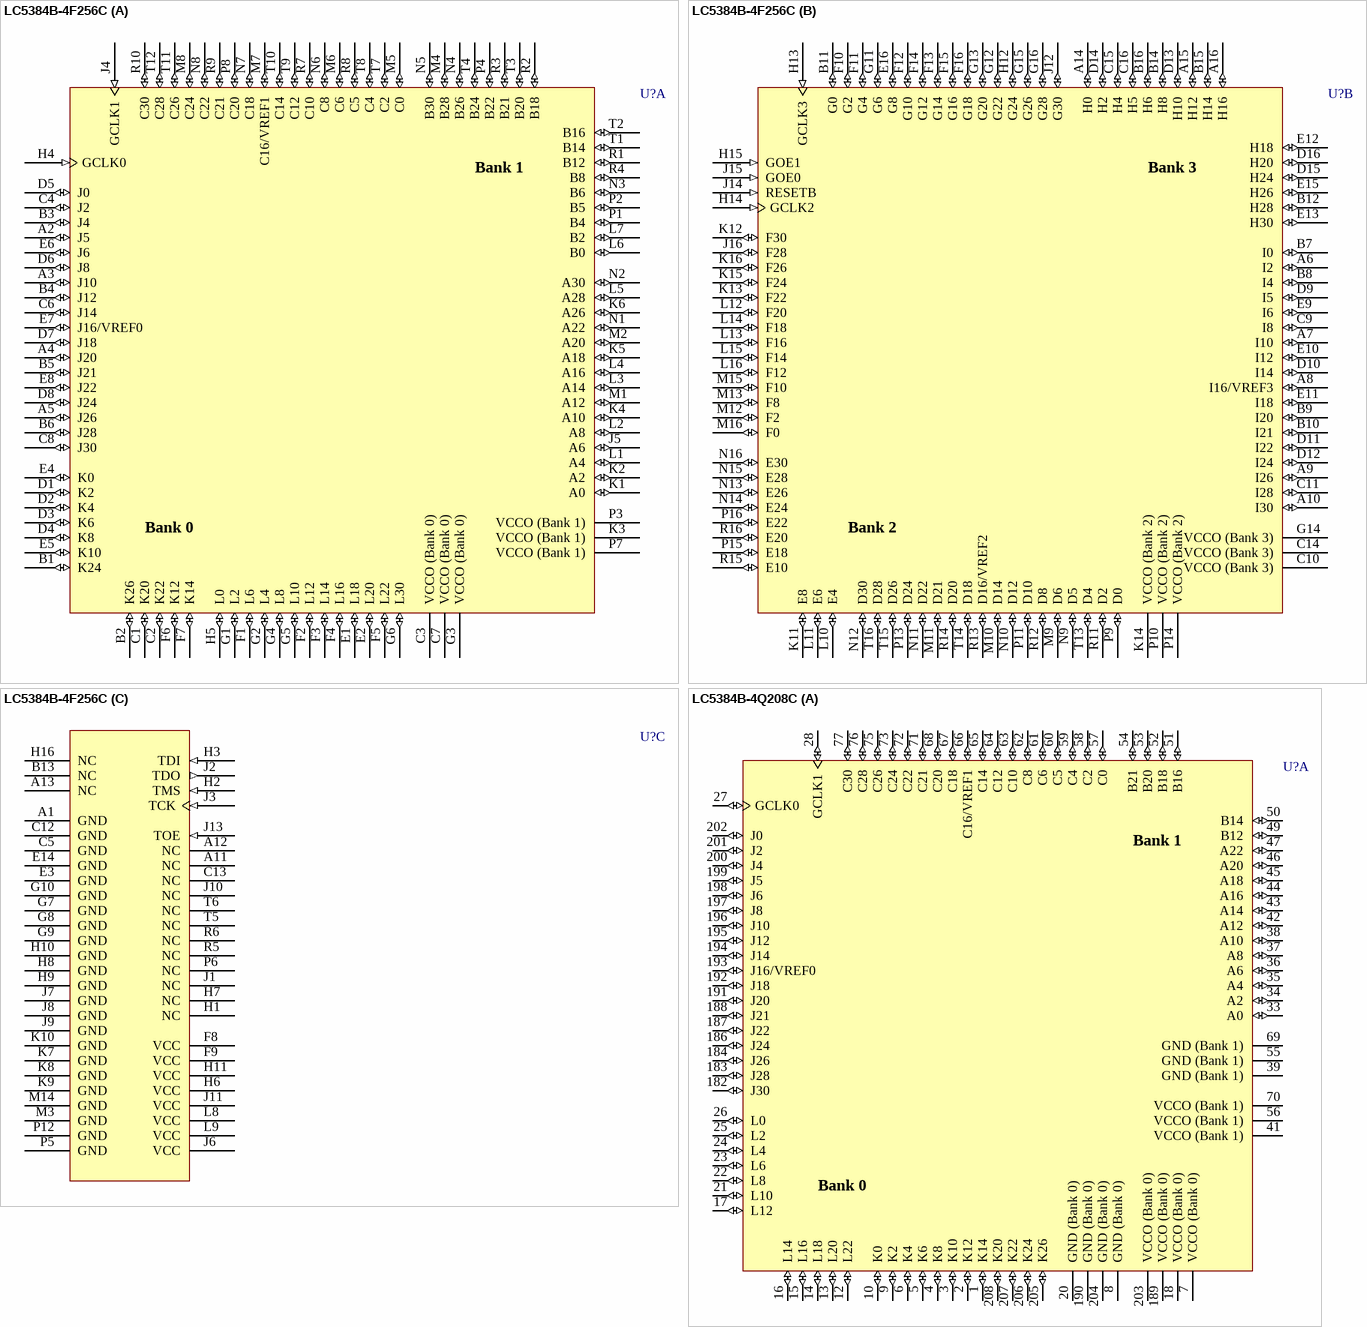
[diagram p14: symbols LC5384B-4F256C to LC5384B-4Q208C]

## LC5384B-4F256C
designator U?
ispMACH 5384B SuperWIDE, High Density PLD, 2.5 V, 186 User I/Os, 256-Ball fpBGA, 4.0 ns, Commercial Grade; Published: 17-Dec-2003; LatestRevisionDate: 13-Apr-2006; LatestRevisionNote: IPC-7351 Footprint Added.; DatasheetVersion: 5kb_11.1 (Sep-2003); PackageVersion: pkg_32, Aug-2005; PackageReference: fpBGA256; Publisher: Altium Limited; PackageDescription: 256-Ball Fine Pitch Ball Grid Array (fpBGA256); Code_IPC: BGA100P16X16-256; ComponentLink1Description: Manufacturer Link; ComponentLink1URL: http://www.latticesemi.com/; ComponentLink2Description: Datasheet; ComponentLink2URL: http://www.latticesemi.com/account/_download.cfm?AMID=4957; ComponentLink3Description: Lattice Login; ComponentLink3URL: http://www.latticesemi.com/account/login.cfm
footprint fpBGA256 (BGA, 256-Leads, Body 17x17mm, Pitch 1mm)
3D model 5384B-fpBGA256 (256-Ball Fine Pitch Ball Grid Array (fpBGA256))
part A pins: A2 J5 (io), A3 J10 (io), A4 J20 (io), A5 J26 (io), B1 K24 (io), B2 K26 (io), B3 J4 (io), B4 J12 (io), B5 J21 (io), B6 J28 (io), C1 K20 (io), C2 K22 (io), C3 VCCO (Bank 0) (power), C4 J2 (io), C6 J14 (io), C7 VCCO (Bank 0) (power), C8 J30 (io), D1 K2 (io), D2 K4 (io), D3 K6 (io), D4 K8 (io), D5 J0 (io), D6 J8 (io), D7 J18 (io), D8 J24 (io), E1 L18 (io), E2 L20 (io), E4 K0 (io), E5 K10 (io), E6 J6 (io), E7 J16/VREF0 (io), E8 J22 (io), F1 L6 (io), F2 L12 (io), F3 L14 (io), F4 L16 (io), F5 L22 (io), F6 K12 (io), F7 K14 (io), G1 L2 (io), G2 L4 (io), G3 VCCO (Bank 0) (power), G4 L8 (io), G5 L10 (io), G6 L30 (io), H4 GCLK0 (in), H5 L0 (io), J4 GCLK1 (in), J5 A6 (io), K1 A0 (io), K2 A2 (io), K3 VCCO (Bank 1) (power), K4 A10 (io), K5 A18 (io), K6 A26 (io), L1 A4 (io), L2 A8 (io), L3 A14 (io), L4 A16 (io), L5 A28 (io), L6 B0 (io), L7 B2 (io), M1 A12 (io), M2 A20 (io), M4 B28 (io), M5 C0 (io), M6 C6 (io), M7 C16/VREF1 (io), M8 C24 (io), N1 A22 (io), N2 A30 (io), N3 B6 (io), N4 B26 (io), N5 B30 (io), N6 C8 (io), N7 C18 (io), N8 C22 (io), P1 B4 (io), P2 B5 (io), P3 VCCO (Bank 1) (power), P4 B22 (io), P7 VCCO (Bank 1) (power), P8 C20 (io), R1 B12 (io), R2 B18 (io), R3 B21 (io), R4 B8 (io), R7 C10 (io), R8 C5 (io), R9 C21 (io), R10 C30 (io), T1 B14 (io), T2 B16 (io), T3 B20 (io), T4 B24 (io), T7 C2 (io), T8 C4 (io), T9 C12 (io), T10 C14 (io), T11 C26 (io), T12 C28 (io)
part B pins: A6 I2 (io), A7 I10 (io), A8 I16/VREF3 (io), A9 I26 (io), A10 I30 (io), A14 H0 (io), A15 H12 (io), A16 H16 (io), B7 I0 (io), B8 I4 (io), B9 I20 (io), B10 I21 (io), B11 G0 (io), B12 H28 (io), B14 H8 (io), B15 H14 (io), B16 H6 (io), C9 I8 (io), C10 VCCO (Bank 3) (power), C11 I28 (io), C14 VCCO (Bank 3) (power), C15 H4 (io), C16 H5 (io), D9 I5 (io), D10 I14 (io), D11 I22 (io), D12 I24 (io), D13 H10 (io), D14 H2 (io), D15 H24 (io), D16 H20 (io), E9 I6 (io), E10 I12 (io), E11 I18 (io), E12 H18 (io), E13 H30 (io), E15 H26 (io), E16 G8 (io), F10 G2 (io), F11 G4 (io), F12 G10 (io), F13 G14 (io), F14 G12 (io), F15 G16 (io), F16 G18 (io), G11 G6 (io), G12 G22 (io), G13 G20 (io), G14 VCCO (Bank 3) (power), G15 G26 (io), G16 G28 (io), H12 G24 (io), H13 GCLK3 (in), H14 GCLK2 (in), H15 GOE1 (in), J12 G30 (io), J14 RESETB (in), J15 GOE0 (in), J16 F28 (io), K11 E8 (io), K12 F30 (io), K13 F22 (io), K14 VCCO (Bank 2) (power), K15 F24 (io), K16 F26 (io), L10 E4 (io), L11 E6 (io), L12 F20 (io), L13 F16 (io), L14 F18 (io), L15 F14 (io), L16 F12 (io), M9 D6 (io), M10 D14 (io), M11 D21 (io), M12 F2 (io), M13 F8 (io), M15 F10 (io), M16 F0 (io), N9 D5 (io), N10 D12 (io), N11 D22 (io), N12 D30 (io), N13 E26 (io), N14 E24 (io), N15 E28 (io), N16 E30 (io), P9 D0 (io), P10 VCCO (Bank 2) (power), P11 D10 (io), P13 D24 (io), P14 VCCO (Bank 2) (power), P15 E18 (io), P16 E22 (io), R11 D2 (io), R12 D8 (io), R13 D16/VREF2 (io), R14 D20 (io), R15 E10 (io), R16 E20 (io), T13 D4 (io), T14 D18 (io), T15 D26 (io), T16 D28 (io)
part C pins: A1 GND (power), A11 NC, A12 NC, A13 NC, B13 NC, C5 GND (power), C12 GND (power), C13 NC, E3 GND (power), E14 GND (power), F8 VCC (power), F9 VCC (power), G7 GND (power), G8 GND (power), G9 GND (power), G10 GND (power), H1 NC, H2 TMS (in), H3 TDI (in), H6 VCC (power), H7 NC, H8 GND (power), H9 GND (power), H10 GND (power), H11 VCC (power), H16 NC, J1 NC, J2 TDO (out), J3 TCK (in), J6 VCC (power), J7 GND (power), J8 GND (power), J9 GND (power), J10 NC, J11 VCC (power), J13 TOE (in), K7 GND (power), K8 GND (power), K9 GND (power), K10 GND (power), L8 VCC (power), L9 VCC (power), M3 GND (power), M14 GND (power), P5 GND (power), P6 NC, P12 GND (power), R5 NC, R6 NC, T5 NC, T6 NC
part A text: Bank 1; Bank 0
part B text: Bank 3; Bank 2

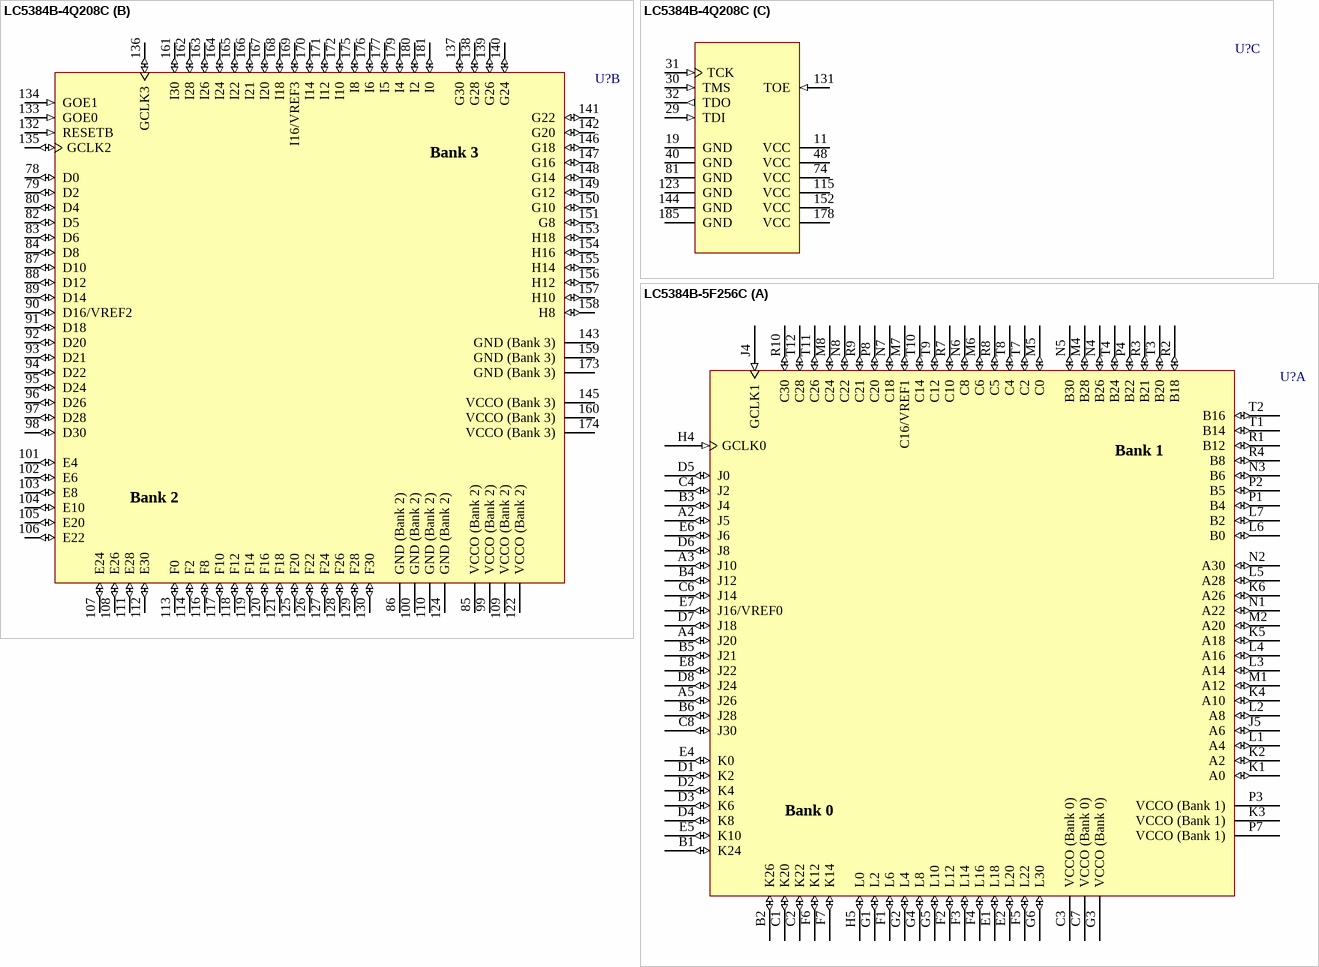
[diagram p15: symbols LC5384B-4Q208C to LC5384B-5F256C]

## LC5384B-4Q208C
designator U?
ispMACH 5384B SuperWIDE, High Density PLD, 2.5 V, 156 User I/Os, 208-Pin PQFP, 4.0 ns, Commercial Grade; Published: 17-Dec-2003; LatestRevisionDate: 13-Apr-2006; LatestRevisionNote: IPC-7351 Footprint Added.; DatasheetVersion: 5kb_11.1 (Sep-2003); PackageVersion: pkg_32, Aug-2005; PackageReference: PQFP208; Publisher: Altium Limited; PackageDescription: 208-Pin Plastic Quad Flat Pack (PQFP208); Code_JEDEC: MO-143-FAI; ComponentLink1Description: Manufacturer Link; ComponentLink1URL: http://www.latticesemi.com/; ComponentLink2Description: Datasheet; ComponentLink2URL: http://www.latticesemi.com/account/_download.cfm?AMID=4957; ComponentLink3Description: Lattice Login; ComponentLink3URL: http://www.latticesemi.com/account/login.cfm
footprint PQFP208_N (Shrink QFP, 208-Leads, Body 28x28mm, Pitch 0.5mm, IPC Medium Density)
footprint PQFP208_L (Shrink QFP, 208-Leads, Body 28x28mm, Pitch 0.5mm, IPC High Density)
footprint PQFP208_M (Shrink QFP, 208-Leads, Body 28x28mm, Pitch 0.5mm, IPC Low Density)
3D model 5384B-PQFP208 (208-Pin Plastic Quad Flat Pack (PQFP208))
part A pins: 1 K14 (io), 2 K12 (io), 3 K10 (io), 4 K8 (io), 5 K6 (io), 6 K4 (io), 7 VCCO (Bank 0) (power), 8 GND (Bank 0) (power), 9 K2 (io), 10 K0 (io), 12 L22 (io), 13 L20 (io), 14 L18 (io), 15 L16 (io), 16 L14 (io), 17 L12 (io), 18 VCCO (Bank 0) (power), 20 GND (Bank 0) (power), 21 L10 (io), 22 L8 (io), 23 L6 (io), 24 L4 (io), 25 L2 (io), 26 L0 (io), 27 GCLK0 (io), 28 GCLK1 (io), 33 A0 (io), 34 A2 (io), 35 A4 (io), 36 A6 (io), 37 A8 (io), 38 A10 (io), 39 GND (Bank 1) (power), 41 VCCO (Bank 1) (power), 42 A12 (io), 43 A14 (io), 44 A16 (io), 45 A18 (io), 46 A20 (io), 47 A22 (io), 49 B12 (io), 50 B14 (io), 51 B16 (io), 52 B18 (io), 53 B20 (io), 54 B21 (io), 55 GND (Bank 1) (power), 56 VCCO (Bank 1) (power), 57 C0 (io), 58 C2 (io), 59 C4 (io), 60 C5 (io), 61 C6 (io), 62 C8 (io), 63 C10 (io), 64 C12 (io), 65 C14 (io), 66 C16/VREF1 (io), 67 C18 (io), 68 C20 (io), 69 GND (Bank 1) (power), 70 VCCO (Bank 1) (power), 71 C21 (io), 72 C22 (io), 73 C24 (io), 75 C26 (io), 76 C28 (io), 77 C30 (io), 182 J30 (io), 183 J28 (io), 184 J26 (io), 186 J24 (io), 187 J22 (io), 188 J21 (io), 189 VCCO (Bank 0) (power), 190 GND (Bank 0) (power), 191 J20 (io), 192 J18 (io), 193 J16/VREF0 (io), 194 J14 (io), 195 J12 (io), 196 J10 (io), 197 J8 (io), 198 J6 (io), 199 J5 (io), 200 J4 (io), 201 J2 (io), 202 J0 (io), 203 VCCO (Bank 0) (power), 204 GND (Bank 0) (power), 205 K26 (io), 206 K24 (io), 207 K22 (io), 208 K20 (io)
part B pins: 78 D0 (io), 79 D2 (io), 80 D4 (io), 82 D5 (io), 83 D6 (io), 84 D8 (io), 85 VCCO (Bank 2) (power), 86 GND (Bank 2) (power), 87 D10 (io), 88 D12 (io), 89 D14 (io), 90 D16/VREF2 (io), 91 D18 (io), 92 D20 (io), 93 D21 (io), 94 D22 (io), 95 D24 (io), 96 D26 (io), 97 D28 (io), 98 D30 (io), 99 VCCO (Bank 2) (power), 100 GND (Bank 2) (power), 101 E4 (io), 102 E6 (io), 103 E8 (io), 104 E10 (io), 105 E20 (io), 106 E22 (io), 107 E24 (io), 108 E26 (io), 109 VCCO (Bank 2) (power), 110 GND (Bank 2) (power), 111 E28 (io), 112 E30 (io), 113 F0 (io), 114 F2 (io), 116 F8 (io), 117 F10 (io), 118 F12 (io), 119 F14 (io), 120 F16 (io), 121 F18 (io), 122 VCCO (Bank 2) (power), 124 GND (Bank 2) (power), 125 F20 (io), 126 F22 (io), 127 F24 (io), 128 F26 (io), 129 F28 (io), 130 F30 (io), 132 RESETB (in), 133 GOE0 (in), 134 GOE1 (in), 135 GCLK2 (io), 136 GCLK3 (io), 137 G30 (io), 138 G28 (io), 139 G26 (io), 140 G24 (io), 141 G22 (io), 142 G20 (io), 143 GND (Bank 3) (power), 145 VCCO (Bank 3) (power), 146 G18 (io), 147 G16 (io), 148 G14 (io), 149 G12 (io), 150 G10 (io), 151 G8 (io), 153 H18 (io), 154 H16 (io), 155 H14 (io), 156 H12 (io), 157 H10 (io), 158 H8 (io), 159 GND (Bank 3) (power), 160 VCCO (Bank 3) (power), 161 I30 (io), 162 I28 (io), 163 I26 (io), 164 I24 (io), 165 I22 (io), 166 I21 (io), 167 I20 (io), 168 I18 (io), 169 I16/VREF3 (io), 170 I14 (io), 171 I12 (io), 172 I10 (io), 173 GND (Bank 3) (power), 174 VCCO (Bank 3) (power), 175 I8 (io), 176 I6 (io), 177 I5 (io), 179 I4 (io), 180 I2 (io), 181 I0 (io)
part C pins: 11 VCC (power), 19 GND (power), 29 TDI (in), 30 TMS (in), 31 TCK (in), 32 TDO (out), 40 GND (power), 48 VCC (power), 74 VCC (power), 81 GND (power), 115 VCC (power), 123 GND (power), 131 TOE (in), 144 GND (power), 152 VCC (power), 178 VCC (power), 185 GND (power)
part A text: Bank 1; Bank 0
part B text: Bank 3; Bank 2

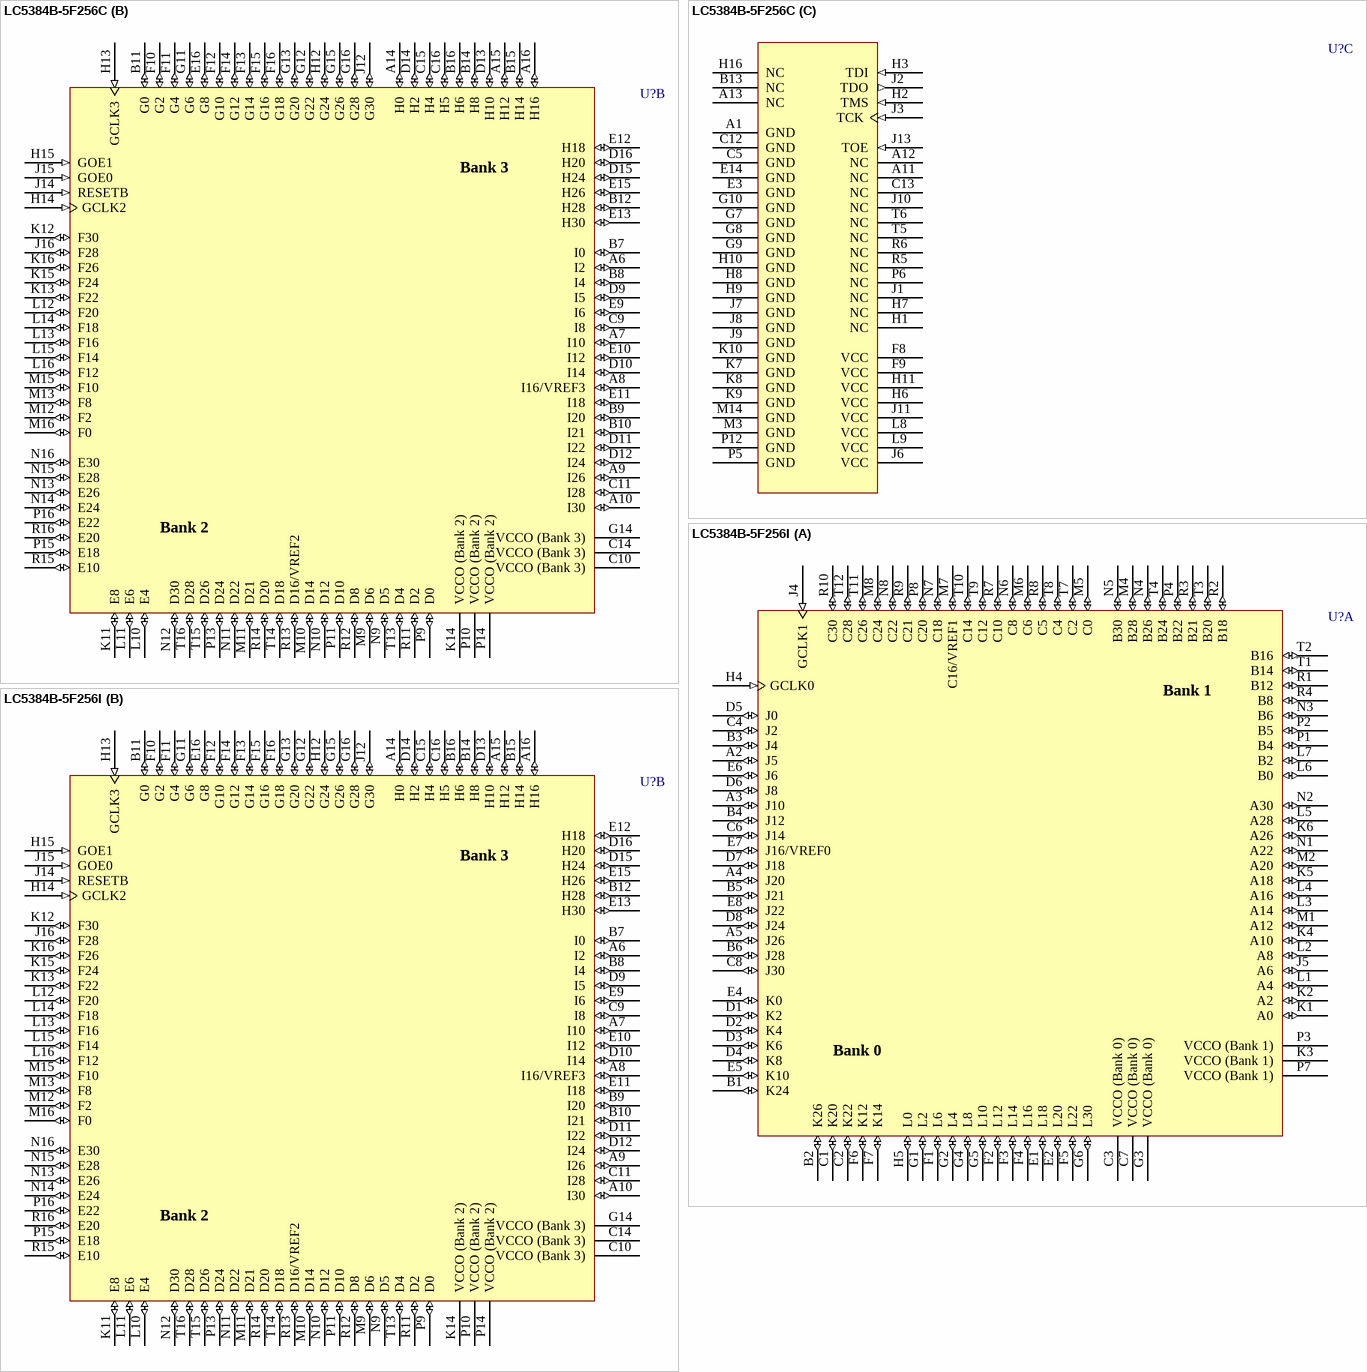
[diagram p16: symbols LC5384B-5F256C to LC5384B-5F256I]